# Altium schematic symbol library Proteus.SchLib: 169 symbols (part 1 of 2)
Pins are listed as number, name and electrical type; pins without a type are passive.

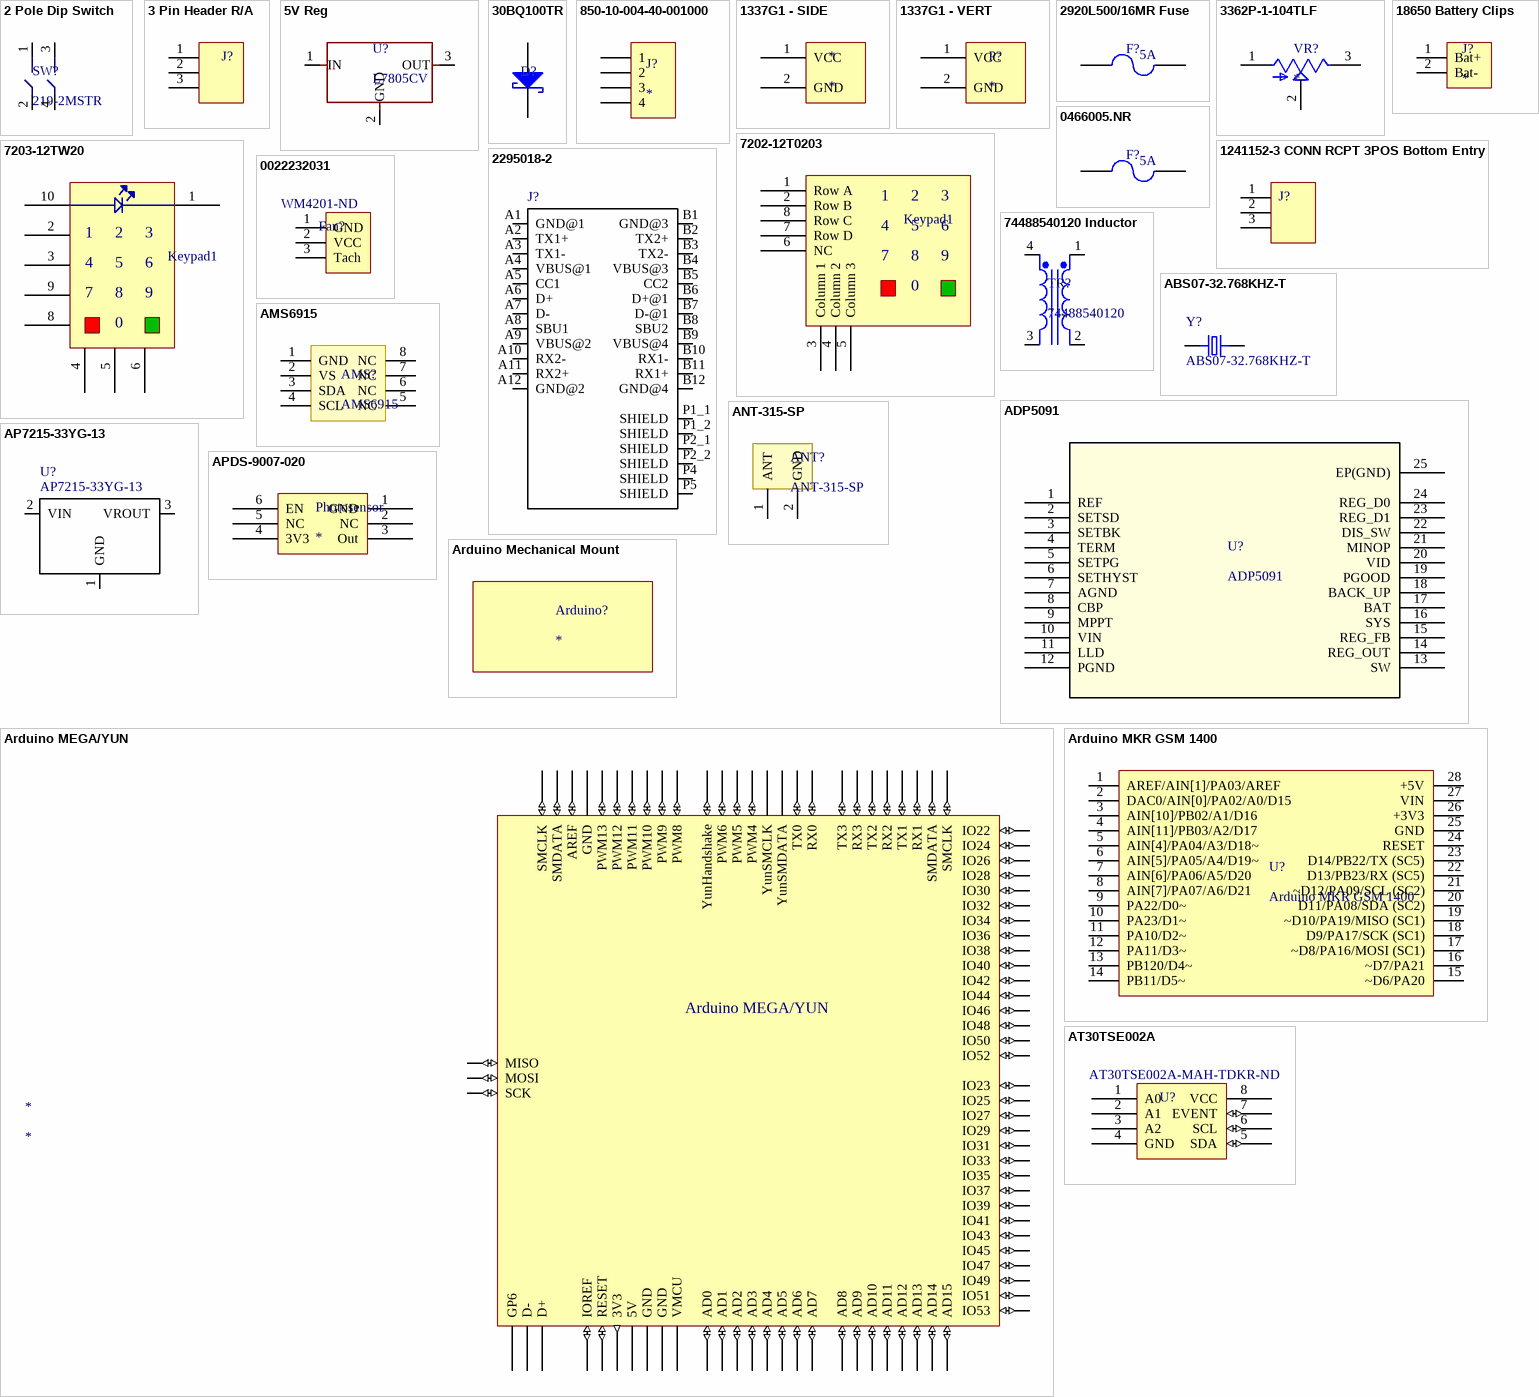
[diagram p0: symbols 2 Pole Dip Switch to AT30TSE002A]

## 2 Pole Dip Switch
designator SW?, comment 219-2MSTR
footprint 2 Pole DIP Switch (219-2MSTR)
pins: 1, 2, 3, 4

## 3 Pin Header R/A
designator J?
3 Pin Header R/A 2.54mm; MFG PN: SWR25X-NRTC-S03-RB-BA
footprint SWR25X-NRTC-S03-RB-BA (3 Pin Header R/A 2.54mm)
pins: 1, 2, 3

## 5V Reg
designator U?, comment L7805CV
MPN: L7805CV
footprint TO-252
pins: 1 IN, 2 GND, 3 OUT

## 30BQ100TR
designator D?  (value not drawn)
Manufacturer: SMC Diode Solutions; Manufacturer PN: 30BQ100TR; Supplier 1: Digikey; Supplier 1 PN: 1655-1389-1-ND
footprint 30BQ100TR (Diode Schottky 100V Surface Mount SMC)
pins: 1, 2

## 850-10-004-40-001000
designator J?
CONN HEADER SMD R/A 4POS 1.27MM
footprint 850-10-004-40-001000 (CONN HEADER SMD R/A 4POS 1.27MM)
pins: 1, 2, 3, 4

## 1337G1 - SIDE
designator *
footprint 1337G1 - SIDE
pins: 1 VCC (power), 2 GND (power)

## 1337G1 - VERT
designator P?
Heavy Duty Power Connectors R/A PCB CONT 25A LOW DETENT 0.70"; Manufacturer PN: 1377G1
footprint 1337G1 - Vert (Heavy Duty Power Connectors R/A PCB CONT 25A LOW DETENT 0.70")
pins: 1 VCC (power), 2 GND (power)

## 2920L500/16MR Fuse
designator F?  Current - Hold: 5A  (hidden comment: *)
PTC Resettable Fuse 16V 5A Ih Surface Mount 2920 (7351 Metric), Concave; Manufacturer: Littlefuse; Manufacturer PN: 2920L500/16MR; Current - Max: 40A; Current - Trip: 10A; Supplier 1: Digikey; Supplier 1 PN: F6136CT-ND; Voltage - Max: 16V
footprint 2920 (7351 Metric)
pins: 1, 2

## 3362P-1-104TLF
designator VR?
100 kOhms 0.5W, 1/2W PC Pins Through Hole Trimmer Potentiometer Cermet 1 Turn Top Finger Adjustment; MP: 3362P-1-104TLF; MF: Bourns; Purchase-URL: https://pricing.snapeda.com/search/part/3362P-1-104TLF/?ref=eda; Package: 3362P-1-T Bourns Inc.; SnapEDA_Link: https://www.snapeda.com/parts/3362P-1-104TLF/Bourns/view-part/1448275/?ref=snap; Availability: Warning; Price: None; Value: *; Check_prices: https://www.snapeda.com/parts/3362P-1-104TLF/Bourns/view-part/1448275/?ref=eda
footprint TRIM_3362P-1-104TLF
pins: 1 CCW, 2 WIPER, 3 CW

## 7202-12T0203
designator Keypad1, comment Keypad 7202-12T0203  (value not drawn)
Keypad Switch 12 Polymer Keys Conductive Rubber Contacts Matrix Output Non-Illuminated 0.05A @ 24VDC; Manufacturer: Storm Interface; Manufacturer PN: 7202-12T0203; Supplier 1: Digikey; Supplier 1 PN: MGR1653-ND
footprint Keypad 7202-12T0203 (Keypad Switch 12 Polymer Keys Conductive Rubber Contacts Matrix Output Non-Illuminated 0.05A @ 24VDC)
pins: 1 Row A, 2 Row B, 3 Column 1, 4 Column 2, 5 Column 3, 6 NC, 7 Row D, 8 Row C
text: 9; 0

## 7203-12TW20
designator Keypad1, comment Keypad 7203-12TW20  (value not drawn)
STORM 720 TFX-I ILLUMINATED 12 BUTTON; Manufacturer: Storm Interface; Manufacturer PN: 7203-12TW20; Supplier 1: Digikey; Supplier 1 PN: MGR1653-ND
footprint HDR1X10 (Connector; Header; 10 Position)
pins: 1, 2 Row A, 3 Row B, 4 Column 1, 5 Column 2, 6 Column 3, 8 Row D, 9 Row C, 10
text: 7; 0

## 18650 Battery Clips
designator J?
footprint 18650 Battery Clips SMD
footprint 18650 Battery Clips TH
pins: 1 Bat+, 2 Bat-

## 0466005.NR
designator F?  Current - Hold: 5A  (hidden comment: *)
PTC Resettable Fuse 16V 5A Ih Surface Mount 2920 (7351 Metric), Concave; Manufacturer: Littlefuse; Manufacturer PN: 2920L500/16MR; Current - Max: 40A; Current - Trip: 10A; Supplier 1: Digikey; Supplier 1 PN: F6136CT-ND; Voltage - Max: 16V
footprint 2920 (7351 Metric)
pins: 1, 2

## 1241152-3 CONN RCPT 3POS Bottom Entry
designator J?  (value not drawn)
3 Position Receptacle, Bottom or Top Entry Connector 0.100" (2.54mm) Surface Mount Gold
footprint 1241152-3 (CONN RCPT 3POS 0.1 GOLD SMD)
pins: 1, 2, 3

## 2295018-2
designator J?  (value not drawn)
Conn USB Type C RCP 12 POS Solder RA SMD 12 Terminal 1 Port T/R; Centerline_Pitch: .5 mm[.019 in]; Product_Type: Connector; Number_of_Positions: 24; MF: TE Connectivity; TE_purchase_URL: https://www.te.com/usa-en/product-2295018-2.html?te_bu=Cor&te_type=disp&te_campaign=seda_glo_cor-seda-global-disp-prtnr-fy19-seda-model-bom-cta_sma-317_1&elqCampaignId=32493; Availability: Unavailable; Package: None; MP: 2295018-2; Price: None; SnapEDA_Link: https://www.snapeda.com/parts/2295018-2/TE%20Connectivity%20AMP%20Connectors/view-part/899206/?ref=snap; EU_RoHS_Compliance: Compliant; Value: *
footprint USB C 2295018-2 (Footprint not found)
pins: A1 GND@1, A2 TX1+, A3 TX1-, A4 VBUS@1, A5 CC1, A6 D+, A7 D-, A8 SBU1, A9 VBUS@2, A10 RX2-, A11 RX2+, A12 GND@2, B1 GND@3, B2 TX2+, B3 TX2-, B4 VBUS@3, B5 CC2, B6 D+@1, B7 D-@1, B8 SBU2, B9 VBUS@4, B10 RX1-, B11 RX1+, B12 GND@4, P1_1 SHIELD, P1_2 SHIELD, P2_1 SHIELD, P2_2 SHIELD, P4 SHIELD, P5 SHIELD

## 0022232031
designator Fan?  Digikey PN: WM4201-ND  (hidden comment: *)
3 Positions Header, Unshrouded Connector 0.100" (2.54mm) Through Hole Tin; Manufacturer: Molex; Manufacturer PN: 0022232031
footprint OD9225-12HSS (FAN AXIAL 92.5X25MM 12VDC WIRE)
pins: 1 GND, 2 VCC, 3 Tach

## 74488540120 Inductor
designator TR?, comment 74488540120
INDUCT ARRAY 2 COIL 13UH SMD; Mfpn: 74488540120
footprint 74488540120 (INDUCT ARRAY 2 COIL 13UH SMD)
pins: 1 Sec+, 2 Sec-, 3 Pri-, 4 Pri+

## ABS07-32.768KHZ-T
designator Y?
32.768kHz Â±20ppm Crystal 12.5pF 70 kOhms 2-SMD, No Lead; MF: Abracon LLC; MP: ABS07-32.768KHZ; SnapEDA_Link: https://www.snapeda.com/parts/ABS07-32.768KHZ/Abracon%20LLC/view-part/448682/?ref=snap; Price: None; Availability: Unavailable; Package: SMD-2 Abracon; Value: *
footprint XTAL_ABS07-32.768KHZ-T (Footprint not found)
pins: 1, 2

## ADP5091
designator U?
Power Management; Manufacturer PN: ADP5091
footprint CP_24_10
pins: 1 REF, 2 SETSD, 3 SETBK, 4 TERM, 5 SETPG, 6 SETHYST, 7 AGND, 8 CBP, 9 MPPT, 10 VIN, 11 LLD, 12 PGND, 13 SW, 14 REG_OUT, 15 REG_FB, 16 SYS, 17 BAT, 18 BACK_UP, 19 PGOOD, 20 VID, 21 MINOP, 22 DIS_SW, 23 REG_D1, 24 REG_D0, 25 EP(GND)

## AMS6915
designator AMS?
OEM Pressure Sensor with I2C Interface
footprint AMS 6915-xxxx-G-V-x-DIL (Single Vertical Pressure Port Configuration)
footprint AMS 6915-xxxx-A-H-x-DIL & AMS 6915-1200-B-H-x-DIL (Single Horizontal Pressure Port Configuration)
footprint AMS 6915-xxxx-D-H-x-DIL & AMS 6915-xxxx-D-B-H-x-DIL (Dual Horizontal Pressure Port Configuration)
pins: 1 GND, 2 VS, 3 SDA, 4 SCL, 5 NC, 6 NC, 7 NC, 8 NC

## ANT-315-SP
designator ANT?
footprint ANT-315-SP
pins: 1 ANT, 2 GND

## AP7215-33YG-13
designator U?
Linear Voltage Regulator IC Positive Fixed 1 Output 600mA SOT-89-3; MF: Diodes Inc.; Package: SOT-89-3 Diodes Inc.; MP: AP7215-33YG-13; Price: None; Availability: Unavailable; SnapEDA_Link: https://www.snapeda.com/parts/AP7215-33YG-13/Diodes%20Inc./view-part/269921/?ref=snap; Value: *
footprint SOT150P400X160-3N
pins: 1 GND (power), 2 VIN (power), 3 VROUT (power)

## APDS-9007-020
designator Photosensor
AMBIENT LIGHT SENSOR 6CHIPLED; Manufacturer: Broadcom Limited; Manufacturer PN: APDS-9007-020; Supplier 1: Digikey; Supplier 1 PN: 516-1719-1-ND
footprint Photosensor APDS-9007-020 (AMBIENT LIGHT SENSOR 6CHIPLED)
pins: 1 GND, 2 NC, 3 Out, 4 3V3, 5 NC, 6 EN

## Arduino Mechanical Mount
designator Arduino?
footprint Arduino Mechanical Mount

## Arduino MEGA/YUN
designator *
footprint Arduino MEGA/YUN
pins: 3V3 (out), 5V (power), AD0 (io), AD1 (io), AD2 (io), AD3 (io), AD4 (io), AD5 (io), AD6 (io), AD7 (io), AD8 (io), AD9 (io), AD10 (io), AD11 (io), AD12 (io), AD13 (io), AD14 (io), AD15 (io), AREF (io), D+, D-, GND (power), GND (power), GND (power), GP6, IO22 (io), IO23 (io), IO24 (io), IO25 (io), IO26 (io), IO27 (io), IO28 (io), IO29 (io), IO30 (io), IO31 (io), IO32 (io), IO33 (io), IO34 (io), IO35 (io), IO36 (io), IO37 (io), IO38 (io), IO39 (io), IO40 (io), IO41 (io), IO42 (io), IO43 (io), IO44 (io), IO45 (io), IO46 (io), IO47 (io), IO48 (io), IO49 (io), IO50 (io), IO51 (io), IO52 (io), IO53 (io), IOREF (io), MISO (io), MOSI (io), PWM4 (io), PWM5 (io), PWM6 (io), PWM8 (io), PWM9 (io), PWM10 (io), PWM11 (io), PWM12 (io), PWM13 (io), RESET (io), RX0 (io), RX1 (io), RX2 (io), RX3 (io), SCK (io), SMCLK (io), SMCLK (io), SMDATA (io), SMDATA (io), TX0 (io), TX1 (io), TX2 (io), TX3 (io), VMCU (power), YunHandshake (io), YunSMCLK (power), YunSMDATA (power)

## Arduino MKR GSM 1400
designator U?
footprint Arduino MKR GSM 1400
pins: 1 AREF/AIN[1]/PA03/AREF, 2 DAC0/AIN[0]/PA02/A0/D15, 3 AIN[10]/PB02/A1/D16, 4 AIN[11]/PB03/A2/D17, 5 AIN[4]/PA04/A3/D18~, 6 AIN[5]/PA05/A4/D19~, 7 AIN[6]/PA06/A5/D20, 8 AIN[7]/PA07/A6/D21, 9 PA22/D0~, 10 PA23/D1~, 11 PA10/D2~, 12 PA11/D3~, 13 PB120/D4~, 14 PB11/D5~, 15 ~D6/PA20, 16 ~D7/PA21, 17 ~D8/PA16/MOSI (SC1), 18 D9/PA17/SCK (SC1), 19 ~D10/PA19/MISO (SC1), 20 D11/PA08/SDA (SC2), 21 ~D12/PA09/SCL (SC2), 22 D13/PB23/RX (SC5), 23 D14/PB22/TX (SC5), 24 RESET, 25 GND, 26 +3V3, 27 VIN, 28 +5V

## AT30TSE002A
designator U?  Supplier Part Number 1: AT30TSE002A-MAH-TDKR-ND  (hidden comment: AT30TSE002A)
SENSOR TEMP I2C/SMBUS 8WDFN; Supply Voltage: 2.7 V ~ 3.6 V; Sensing Temperature Local: -20°C ~ 125°C; Package: 8-WDFN; Supplier 1: Digi-Key
footprint AT30TSE002A (8WDFN 2x3mm)
pins: 1 A0 (power), 2 A1 (power), 3 A2 (power), 4 GND (power), 5 SDA (io), 6 SCL (io), 7 EVENT (io), 8 VCC (power)

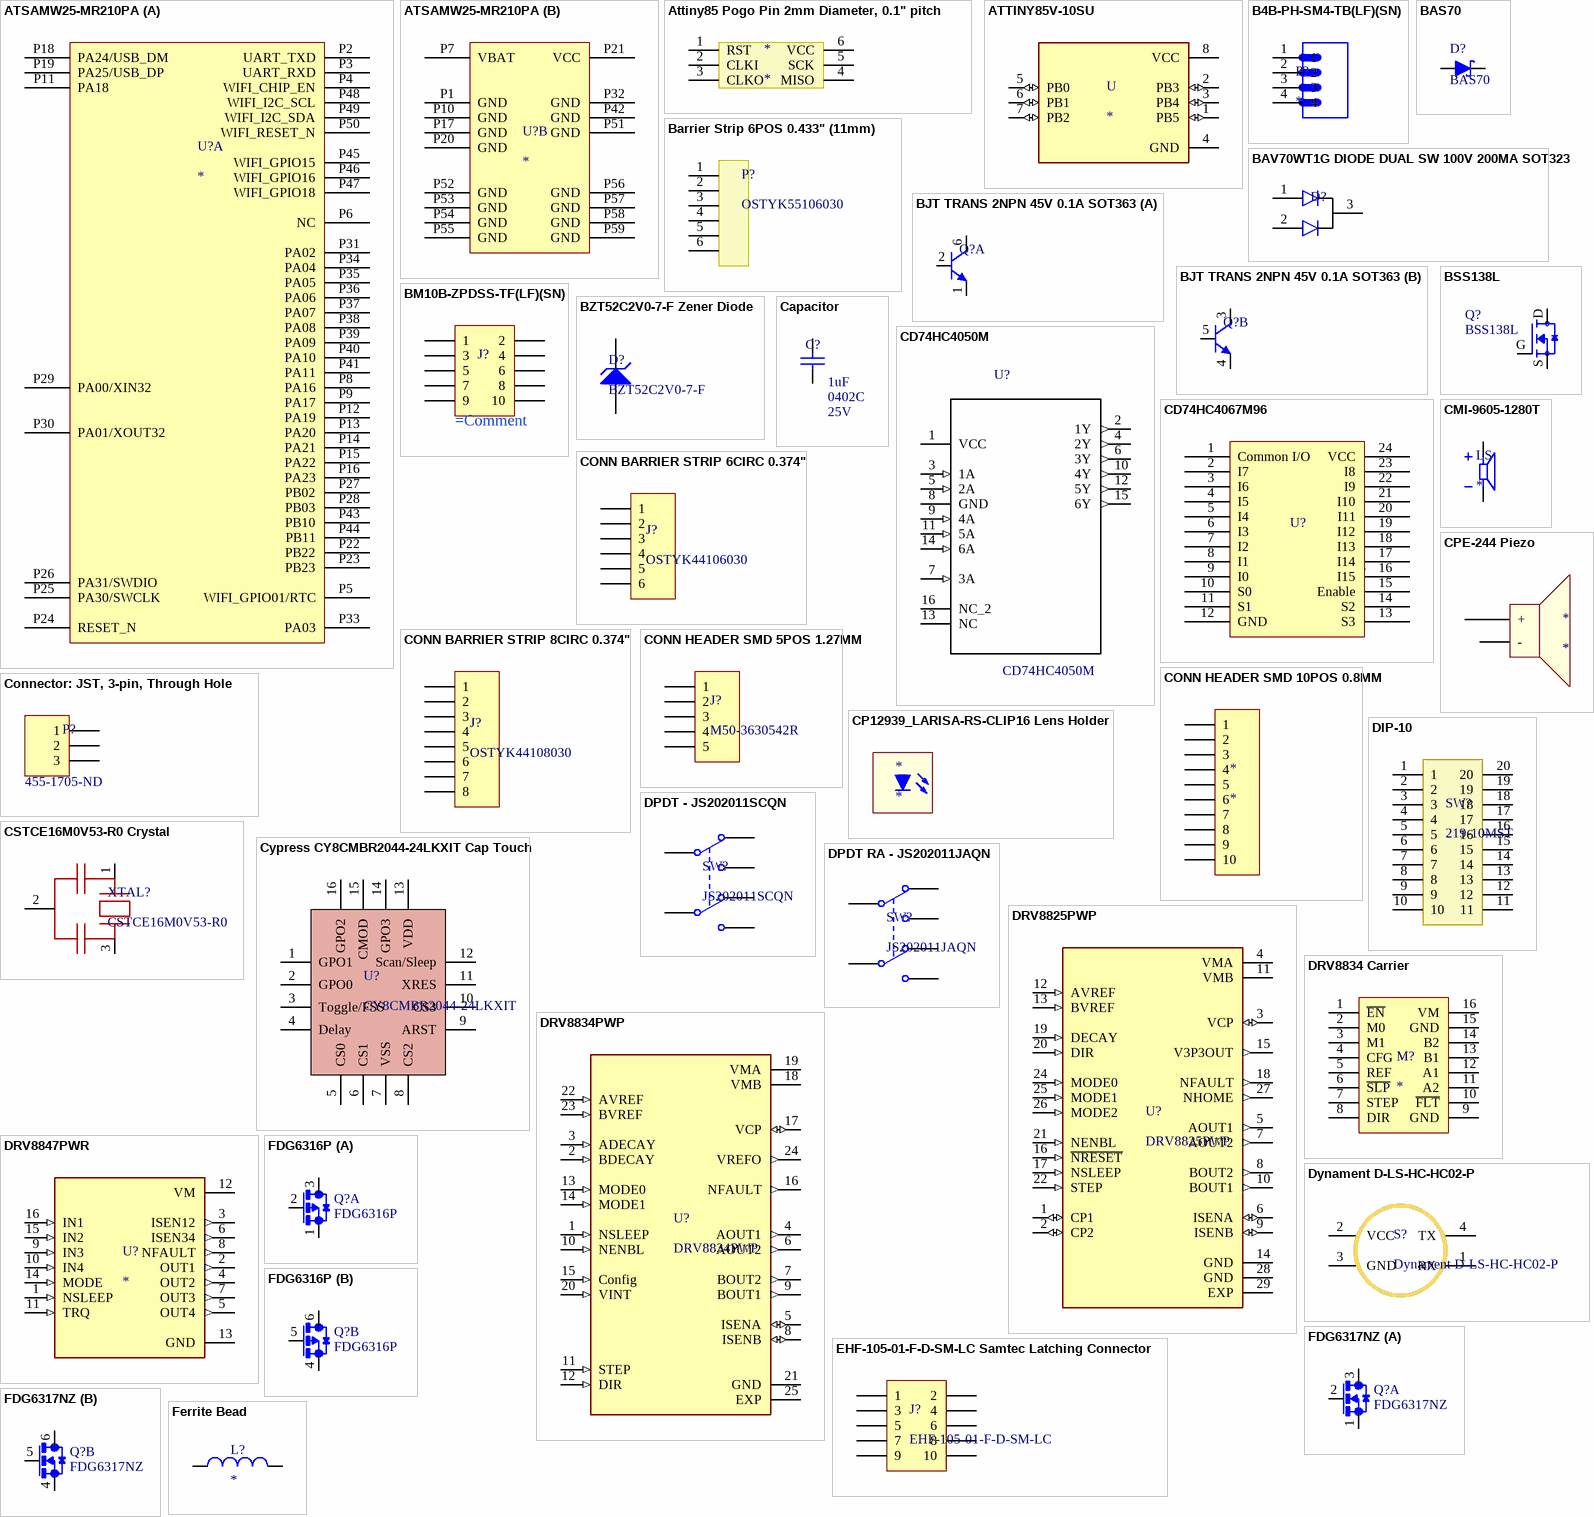
[diagram p1: symbols ATSAMW25-MR210PA to Ferrite Bead]

## ATSAMW25-MR210PA
designator U?
IEEE 802.11 b/g/n SmartConnect Wi-Fi Module
footprint ATSAMW25-MR210PA
part A pins: P2 UART_TXD, P3 UART_RXD, P4 WIFI_CHIP_EN, P5 WIFI_GPIO01/RTC, P6 NC, P8 PA16, P9 PA17, P11 PA18, P12 PA19, P13 PA20, P14 PA21, P15 PA22, P16 PA23, P18 PA24/USB_DM, P19 PA25/USB_DP, P22 PB22, P23 PB23, P24 RESET_N, P25 PA30/SWCLK, P26 PA31/SWDIO, P27 PB02, P28 PB03, P29 PA00/XIN32, P30 PA01/XOUT32, P31 PA02, P33 PA03, P34 PA04, P35 PA05, P36 PA06, P37 PA07, P38 PA08, P39 PA09, P40 PA10, P41 PA11, P43 PB10, P44 PB11, P45 WIFI_GPIO15, P46 WIFI_GPIO16, P47 WIFI_GPIO18, P48 WIFI_I2C_SCL, P49 WIFI_I2C_SDA, P50 WIFI_RESET_N
part B pins: P1 GND, P7 VBAT, P10 GND, P17 GND, P20 GND, P21 VCC, P32 GND, P42 GND, P51 GND, P52 GND, P53 GND, P54 GND, P55 GND, P56 GND, P57 GND, P58 GND, P59 GND

## Attiny85 Pogo Pin 2mm Diameter, 0.1" pitch
designator *
footprint Attiny85 Pogo Pin 2mm Diameter 0.1" Pitch
pins: 1 RST, 2 CLKI, 3 CLKO, 4 MISO, 5 SCK, 6 VCC

## ATTINY85V-10SU
designator U
AVR AVRÂ® ATtiny Microcontroller IC 8-Bit 10MHz 8KB (4K x 16) FLASH 8-SOIC; MF: Microchip Technology; MP: ATTINY85V-10SU; Arrow_Electronics-Purchase-URL: https://snapeda.com/shop?store=Arrow+Electronics&id=4710232; Value: *; SnapEDA_Link: https://www.snapeda.com/parts/ATTINY85V-10SU/Microchip/view-part/4710232/?ref=snap; DigiKey-Purchase-URL: https://snapeda.com/shop?store=DigiKey&id=4710232; Mouser-Purchase-URL: https://snapeda.com/shop?store=Mouser&id=4710232; Package: SOIC-8 Microchip Technology
footprint SOIC127P798X216-8N
pins: 1 PB5 (io), 2 PB3 (io), 3 PB4 (io), 4 GND (power), 5 PB0 (io), 6 PB1 (io), 7 PB2 (io), 8 VCC (power)

## B4B-PH-SM4-TB(LF)(SN)
designator P?
Connector Header Surface Mount 4 position 0.079 _2.00mm_; MF: JST Sales; MP: B4B-PH-SM4-TB_LF__SN_; Value: *; Price: None; Package: None; SnapEDA_Link: https://www.snapeda.com/parts/B6B-PH-SM4-TB%28LF%29%28SN%29/JST%20Sales%20America%20Inc./view-part/52131/?ref=snap; Availability: Unavailable
footprint JST_B4B-PH-SM4-TB(LF)(SN) (Footprint not found)
pins: 1, 2, 3, 4

## Barrier Strip 6POS 0.433" (11mm)
designator P?, comment OSTYK55106030
Manufacturer: On Shore Technology; Manufacturer PN: OSTYK55106030; Digikey PN: ED2930-ND
footprint Barrier Strip 6POS 0.433" (11mm) (CONN BARRIER STRIP 6CIRC 0.433")
pins: 1, 2, 3, 4, 5, 6

## BAS70
designator D?
Diode Array 1 Pair Series Connection Schottky 70V 100mA _DC_ Surface Mount TO-236-3, SC-59, SOT-23-3; MF: NXP Semiconductors; Package: SOT-23 NXP Semiconductors; Price: None; Availability: Unavailable; MP: BAS70; SnapEDA_Link: https://www.snapeda.com/parts/BAS70/NXP%20Semiconductors/view-part/388227/?ref=snap; Value: *
footprint SOT23 (Footprint not found)
pins: 1 A, 3 K

## BAV70WT1G DIODE DUAL SW 100V 200MA SOT323
designator D?  (value not drawn)
Diode Array 1 Pair Common Cathode Standard 100V 200mA (DC) Surface Mount SC-70, SOT-323; MFG PN: BAV70WT1G; MFG: ON Semiconductor
footprint SOT323 SC-70
pins: 1, 2, 3

## BJT TRANS 2NPN 45V 0.1A SOT363
designator Q?, comment BC847BDW1T3G  (value not drawn)
Bipolar (BJT) Transistor Array 2 NPN (Dual) 45V 100mA 100MHz 380mW Surface Mount SC-88/SC70-6/SOT-363; MFG PN: BC847BDW1T3G
footprint SC70-6L
part A pins: 1 E, 2 B, 6 C
part B pins: 3 C, 4 E, 5 B

## BM10B-ZPDSS-TF(LF)(SN)
designator J?  (value not drawn)
Mfg PN: BM10B-ZPDSS-TF(LF)(SN)
pins: 1, 2, 3, 4, 5, 6, 7, 8, 9, 10

## BSS138L
designator Q?
N-Channel 50V 200mA _Ta_ 350mW _Ta_ Surface Mount SOT-23-3; MF: ON Semiconductor; Package: SOT-23 ON Semiconductor; MP: BSS138L; SnapEDA_Link: https://www.snapeda.com/parts/BSS138L/ON%20Semiconductor/view-part/1717338/?ref=snap; Availability: Unavailable; Price: None; Value: *
footprint BSS138L_BSS138L(Primary)
pins: D, G, S

## BZT52C2V0-7-F Zener Diode
designator D?, comment BZT52C2V0-7-F
Zener Diode 2V 500mW ±5% Surface Mount SOD-123; MFG PN: BZT52C2V0-7-F
footprint SOD-123
pins: 1 C, 2 A

## Capacitor
designator C?  value 1uF  Voltage: 25V
footprint 0402C (Capacitor)
footprint 0603C (Capacitor)
footprint 0805C (Capacitor)
pins: 1, 2

## CD74HC4050M
designator U?
Buffer, Non-Inverting 6 Element 1 Bit per Element Push-Pull Output 16-SOIC; MF: Texas; Package: SOIC-16 Harris; MP: CD74HC4050M; SnapEDA_Link: https://www.snapeda.com/parts/CD74HC4050M/Texas%20Instruments/view-part/1199551/?ref=snap; Price: None; Availability: Unavailable; Value: *
footprint SOIC127P600X175-16N (Footprint not found)
footprint SOP65P640X120-16N
pins: 1 VCC (power), 2 1Y (out), 3 1A (in), 4 2Y (out), 5 2A (in), 6 3Y (out), 7 3A (in), 8 GND, 9 4A (in), 10 4Y (out), 11 5A (in), 12 5Y (out), 13 NC, 14 6A (in), 15 6Y (out), 16 NC_2

## CD74HC4067M96
designator U?  Manufacturer PN: CD74HC4067M96  (hidden comment: *)
IC MUX/DEMUX 1X16 24SOIC; Manufacturer: Texas Instruments; Supplier 1 PN: 296-29408-1-ND; Supplier 1: Digikey
footprint DW24_L (SOIC, 24-Leads, Body 15.4x7.5mm, Pitch 1.27mm, IPC High Density)
footprint DW24_M (SOIC, 24-Leads, Body 15.4x7.5mm, Pitch 1.27mm, IPC Low Density)
footprint DW24_N (SOIC, 24-Leads, Body 15.4x7.5mm, Pitch 1.27mm, IPC Medium Density)
pins: 1 Common I/O, 2 I7, 3 I6, 4 I5, 5 I4, 6 I3, 7 I2, 8 I1, 9 I0, 10 S0, 11 S1, 12 GND, 13 S3, 14 S2, 15 Enable, 16 I15, 17 I14, 18 I13, 19 I12, 20 I11, 21 I10, 22 I9, 23 I8, 24 VCC

## CMI-9605-1280T
designator LS
9.6 mm, 12 Vdc, 80 dB, Through Hole, Driving Circuit, Magnetic Audio Indicator Buzzer; MP: CMI-9605-1280T; MF: CUI Devices; Value: *; SnapEDA_Link: https://www.snapeda.com/parts/CMI-9605-1280T/CUI%20Devices/view-part/3662540/?ref=snap; Availability: Unavailable; Price: None
footprint CUI_CMI-9605-1280T
pins: N, P

## CONN BARRIER STRIP 6CIRC 0.374"
designator J?, comment OSTYK44106030
MFG PN: OSTYK44106030
footprint CONN BARRIER STRIP 6CIRC 0.374"
pins: 1, 2, 3, 4, 5, 6

## CONN BARRIER STRIP 8CIRC 0.374"
designator J?, comment OSTYK44108030
MFG PN: OSTYK44108030
footprint CONN BARRIER STRIP 8CIRC 0.374"
pins: 1, 2, 3, 4, 5, 6, 7, 8

## CONN HEADER SMD 5POS 1.27MM
designator J?, comment M50-3630542R
MFG PN: M50-3630542R
footprint CONN HEADER SMD 5POS 1.27MM (Connector Header Surface Mount 5 position 0.050" (1.27mm))
pins: 1, 2, 3, 4, 5

## CONN HEADER SMD 10POS 0.8MM
designator *
footprint CONN HEADER SMD 10POS 0.8MM
pins: 1, 2, 3, 4, 5, 6, 7, 8, 9, 10

## Connector: JST, 3-pin, Through Hole
designator P?  Supplier 1 PN: 455-1705-ND  (hidden comment: *)
3 Positions Header, Shrouded Connector 0.079" (2.00mm) Through Hole Tin; Manufacturer: JST; Manufacturer PN: B3B-PH-K-S(LF)(SN); Supplier 1: Digikey
footprint Connector: JST, 3-pin, Through Hole, Vertical, 2mm (3 Positions Header, Shrouded Connector 0.079" (2.00mm) Through Hole Tin)
footprint Connector: JST, 3-pin, Through Hole, Right-Angle, 2mm (3 Positions Header, Shrouded Connector 0.079" (2.00mm) Through Hole, Right Angle Tin)
pins: 1, 2, 3

## CP12939_LARISA-RS-CLIP16 Lens Holder
designator *

## CPE-244 Piezo
designator *
BUZZER PIEZO 12V 14MM RADIAL
footprint CPE-244 Piezo (DC Buzzer Single Tone 5kHz Piezo 9 ~ 16V 80dB @ 12V, 30cm)
pins: + (power), - (power)

## CSTCE16M0V53-R0 Crystal
designator XTAL?, comment CSTCE16M0V53-R0
footprint CSTCE16M0V53-R0
pins: 1, 2, 3

## Cypress CY8CMBR2044-24LKXIT Cap Touch
designator U?, comment CY8CMBR2044-24LKXIT
footprint QFN-MG16_L (QFN, 16-Leads, Body 3x3mm, Pitch 0.5mm, Thermal Pad 1.5x1.5mm, IPC High Density)
pins: 1 GPO1, 2 GPO0, 3 Toggle/FSS, 4 Delay, 5 CS0, 6 CS1, 7 VSS, 8 CS2, 9 ARST, 10 CS3, 11 XRES, 12 Scan/Sleep, 13 VDD, 14 GPO3, 15 CMOD, 16 GPO2

## DIP-10
designator SW?, comment 219-10MST
Manufacturer PN: 219-10MST
footprint DIP-10 (219-10MST)
pins: 1, 2, 3, 4, 5, 6, 7, 8, 9, 10, 11, 12, 13, 14, 15, 16, 17, 18, 19, 20

## DPDT - JS202011SCQN
designator SW?, comment JS202011SCQN
Manufacturer PN: JS202011SCQN
footprint DPDT Switch - JS202011SCQN
pins: 1 NC1, 2 COMMON1, 3 NO1, 4 NC2, 5 COMMON2, 6 NO2

## DPDT RA - JS202011JAQN
designator SW?, comment JS202011JAQN
Manufacturer PN: JS202011JAQN
footprint DPDT Switch RA - JS202011JAQN
pins: 1 NC1, 2 COMMON1, 3 NO1, 5 NC2, 6 COMMON2, 7 NO2

## DRV8825PWP
designator U?
Bipolar Motor Driver Power MOSFET Logic 28-HTSSOP; MF: Texas Instruments; Package: HTSSOP-28 Texas Instruments; Price: None; SnapEDA_Link: https://www.snapeda.com/parts/DRV8825PWP/Texas%20Instruments/view-part/52585/?ref=snap; Availability: Unavailable; Value: *; MP: DRV8825PWP
footprint SOP65P640X120-29N
pins: 1 CP1 (io), 2 CP2 (io), 3 VCP (io), 4 VMA (power), 5 AOUT1 (out), 6 ISENA (io), 7 AOUT2 (out), 8 BOUT2 (out), 9 ISENB (io), 10 BOUT1 (out), 11 VMB (power), 12 AVREF (in), 13 BVREF (in), 14 GND (power), 15 V3P3OUT (out), 16 ~{NRESET} (in), 17 NSLEEP (in), 18 NFAULT (out), 19 DECAY (in), 20 DIR (in), 21 NENBL (in), 22 STEP (in), 24 MODE0 (in), 25 MODE1 (in), 26 MODE2 (in), 27 NHOME (out), 28 GND (power), 29 EXP (power)

## DRV8834 Carrier
designator M?
footprint DRV8834 Carrier
pins: 1 ~{EN}, 2 M0, 3 M1, 4 CFG, 5 REF, 6 ~{SLP}, 7 STEP, 8 DIR, 9 GND, 10 ~{FLT}, 11 A2, 12 A1, 13 B1, 14 B2, 15 GND, 16 VM

## DRV8834PWP
designator U?
Bipolar Motor Driver Power MOSFET Logic 28-HTSSOP; MF: Texas Instruments; Package: HTSSOP-28 Texas Instruments; Price: None; SnapEDA_Link: https://www.snapeda.com/parts/DRV8825PWP/Texas%20Instruments/view-part/52585/?ref=snap; Availability: Unavailable; Value: *; MP: DRV8834PWP
footprint SOP65P640X120-25N
pins: 1 NSLEEP (in), 2 BDECAY (in), 3 ADECAY (in), 4 AOUT1 (out), 5 ISENA (io), 6 AOUT2 (out), 7 BOUT2 (out), 8 ISENB (io), 9 BOUT1 (out), 10 NENBL (in), 11 STEP (in), 12 DIR (in), 13 MODE0 (in), 14 MODE1 (in), 15 Config (in), 16 NFAULT (out), 17 VCP (io), 18 VMB (power), 19 VMA (power), 20 VINT (in), 21 GND (power), 22 AVREF (in), 23 BVREF (in), 24 VREFO (out), 25 EXP (power)

## DRV8847PWR
designator U?
18-V, 2-A dual H-bridge motor driver with current regulation & independent half-bridge control 16-TSSOP -40 to 125; MP: DRV8847PWR; MF: Texas Instruments; Texas_Instruments-Purchase-URL: https://snapeda.com/shop?store=Texas+Instruments&id=3603903; Availability: Unavailable; Package: TSSOP-16 Texas Instruments; Mouser-Purchase-URL: https://snapeda.com/shop?store=Mouser&id=3603903; Price: None; SnapEDA_Link: https://www.snapeda.com/parts/DRV8847PWR/Texas%20Instruments/view-part/3603903/?ref=snap; Value: *
footprint TSSOP16
pins: 1 NSLEEP (in), 2 OUT1 (out), 3 ISEN12 (out), 4 OUT2 (out), 5 OUT4 (out), 6 ISEN34 (out), 7 OUT3 (out), 8 NFAULT (out), 9 IN3 (in), 10 IN4 (in), 11 TRQ (in), 12 VM (power), 13 GND (power), 14 MODE (in), 15 IN2 (in), 16 IN1 (in)

## Dynament D-LS-HC-HC02-P
designator S?
SGX  INIR-ME-100% Sensor - CH4 Methane; MFG PN: D-LS-HC-HC02-P
footprint Dynament D-LS-HC-HC02-P
pins: 1 RX, 2 VCC, 3 GND, 4 TX

## EHF-105-01-F-D-SM-LC Samtec Latching Connector
designator J?, comment EHF-105-01-F-D-SM-LC
MFG PN: EHF-105-01-F-D-SM-LC
footprint EHF-105-01-F-D-SM-LC Samtec Latching Connector
pins: 1, 2, 3, 4, 5, 6, 7, 8, 9, 10

## FDG6316P
designator Q?
Mosfet Array 2 P-Channel _Dual_ 12V 700mA 300mW Surface Mount SC-88 _SC-70-6_; MF: ON; MP: FDG6316P; SnapEDA_Link: https://www.snapeda.com/parts/FDG6316P/ON%20Semiconductor/view-part/262683/?ref=snap; Price: None; Availability: Unavailable; Package: SC-70-6 Fairchild Semiconductor; Value: *
footprint SC70-6L
part A pins: 1 S, 2 G, 3 D
part B pins: 4 S, 5 G, 6 D

## FDG6317NZ
designator Q?
Mosfet Array 2 N-Channel (Dual) 20V 700mA 300mW Surface Mount SC-88 (SC-70-6); MP: FDG6316P; MF: ON; SnapEDA_Link: https://www.snapeda.com/parts/FDG6316P/ON%20Semiconductor/view-part/262683/?ref=snap; Price: None; Availability: Unavailable; Package: SC-70-6 Fairchild Semiconductor; Value: *
footprint SC70-6L
part A pins: 1 S, 2 G, 3 D
part B pins: 4 S, 5 G, 6 D

## Ferrite Bead
designator L?
footprint 0603F (Capacitor)
pins: 1, 2

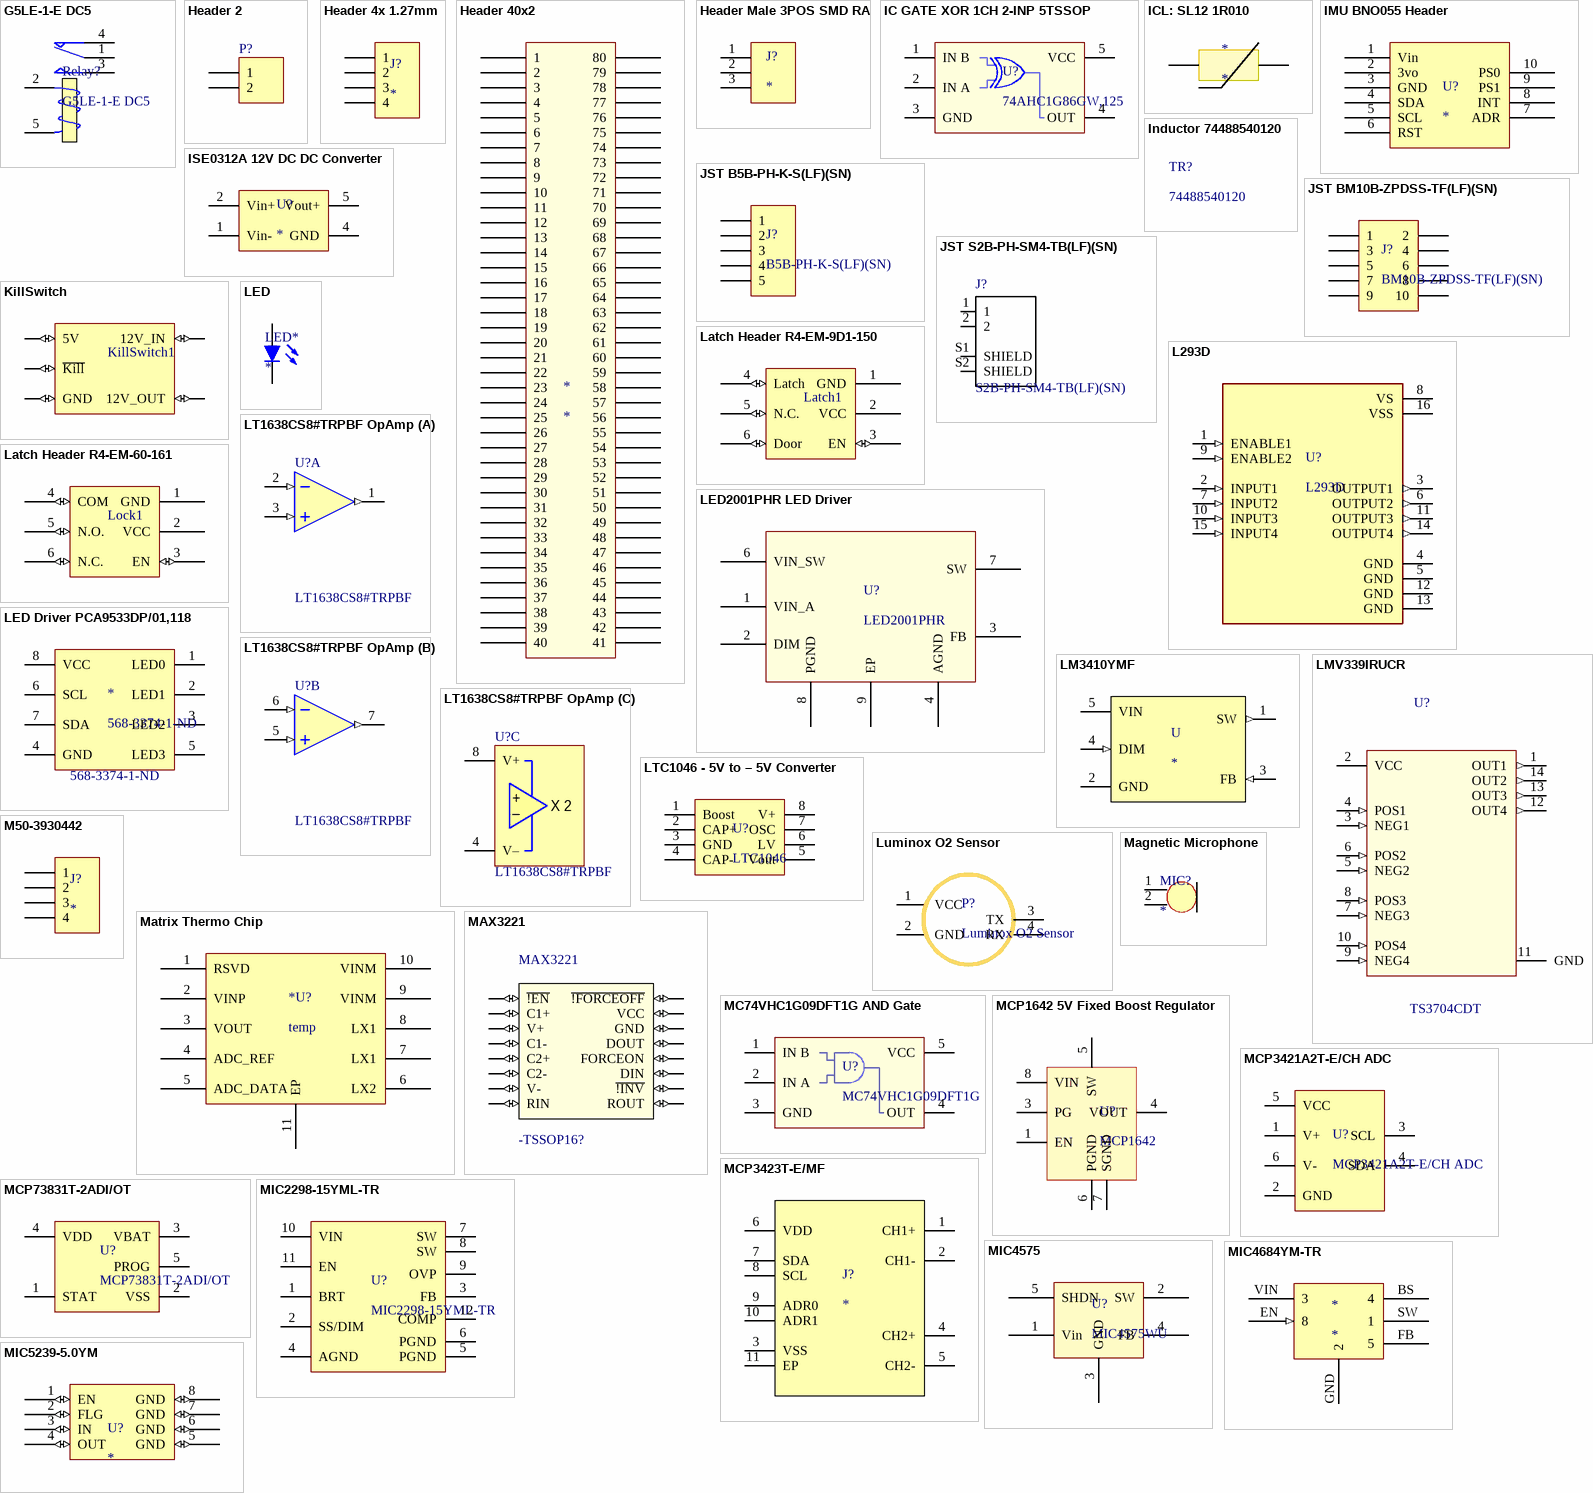
[diagram p2: symbols G5LE-1-E DC5 to MIC5239-5.0YM]

## G5LE-1-E DC5
designator Relay?
General Purpose Relay SPDT (1 Form C) 5VDC Coil Through Hole; Manufacturer: Omron; Supplier 1: Digikey; Supplier 1 PN: Z2616-ND; Manufacturer PN: G5LE-1-E DC5
footprint G5LE-1-E DC5 SPDT Relay (RELAY GEN PURPOSE SPDT 16A 5V)
pins: 1 COM, 2 NC, 3 NO, 4 T1, 5 T2

## Header 2
designator P?
Header, 2-Pin; LatestRevisionDate: 17-Jul-2002; LatestRevisionNote: Re-released for DXP Platform.; Publisher: Altium Limited
footprint HDR1X2 (Connector; Header; 2 Position)
signal-integrity model Connector
footprint HDR1X2 - Large (Connector; Header; 2 Position)
pins: 1, 2

## Header 4x 1.27mm
designator J?
CONN HEADER SMD R/A 4POS 1.27MM
footprint Header 4x 1.27mm (CONN HEADER SMD R/A 4POS 1.27MM)
pins: 1, 2, 3, 4

## Header 40x2
designator *
footprint Header 40x2
pins: 1, 2, 3, 4, 5, 6, 7, 8, 9, 10, 11, 12, 13, 14, 15, 16, 17, 18, 19, 20, 21, 22, 23, 24, 25, 26, 27, 28, 29, 30, 31, 32, 33, 34, 35, 36, 37, 38, 39, 40, 41, 42, 43, 44, 45, 46, 47, 48, 49, 50, 51, 52, 53, 54, 55, 56, 57, 58, 59, 60, 61, 62, 63, 64, 65, 66, 67, 68, 69, 70, 71, 72, 73, 74, 75, 76, 77, 78, 79, 80

## Header Male 3POS SMD RA
designator J?
footprint Header Male 3POS SMT RA
footprint Header Male 3POS SMT VERT
pins: 1, 2, 3

## IC GATE XOR 1CH 2-INP 5TSSOP
designator U?, comment 74AHC1G86GW,125
MFG PN: 74AHC1G86GW,125
footprint SOT353-5
pins: 1 IN B, 2 IN A, 3 GND, 4 OUT, 5 VCC

## ICL: SL12 1R010
designator *
footprint ICL (ICL 1 OHM 20% 10A 12MM)
pins: 1, 2

## IMU BNO055 Header
designator U?
footprint IMU BNO055 Header
pins: 1 Vin, 2 3vo, 3 GND, 4 SDA, 5 SCL, 6 RST, 7 ADR, 8 INT, 9 PS1, 10 PS0

## Inductor 74488540120
designator TR?, comment 74488540120
INDUCT ARRAY 2 COIL 13UH SMD; MFGR PN: 74488540120

## ISE0312A 12V DC DC Converter
designator U?
Isolated Module DC DC Converter 1 Output 12V    84mA 2.97V - 3.63V Input; MFG PN: ISE0312A; MFG: XP Power
footprint ISE0312A (12V DC DC Converter)
pins: 1 Vin-, 2 Vin+, 4 GND, 5 Vout+

## JST B5B-PH-K-S(LF)(SN)
designator J?, comment B5B-PH-K-S(LF)(SN)
Connector Header Through Hole 5 position 0.079" (2.00mm); Mfg PN: B5B-PH-K-S(LF)(SN)
footprint B5B-PH-K-S(LF)(SN) (Connector Header Through Hole 5 position 0.079" (2.00mm))
pins: 1, 2, 3, 4, 5

## JST BM10B-ZPDSS-TF(LF)(SN)
designator J?, comment BM10B-ZPDSS-TF(LF)(SN)
Connector Header Surface Mount 10 position 0.059" (1.50mm); MFG PN: BM10B-ZPDSS-TF(LF)(SN)
footprint JST BM10B-ZPDSS-TF(LF)(SN) (Connector Header Surface Mount 10 position 0.059" (1.50mm))
pins: 1, 2, 3, 4, 5, 6, 7, 8, 9, 10

## JST S2B-PH-SM4-TB(LF)(SN)
designator J?, comment S2B-PH-SM4-TB(LF)(SN)
Connector Header Surface Mount, Right Angle 2 position 0.079 _2.00mm_; MF: JST Sales; MP: S2B-PH-SM4-TB_LF__SN_; Price: None; SnapEDA_Link: https://www.snapeda.com/parts/S2B-PH-SM4-TB%28LF%29%28SN%29/JST%20Sales%20America%20Inc./view-part/46879/?ref=snap; Package: None; Availability: Unavailable; Value: *
footprint S2B-PH-SM4-TB(LF)(SN)_()
pins: 1, 2, S1 SHIELD, S2 SHIELD

## KillSwitch
designator KillSwitch1  (value not drawn)
pins: 5V (io), 12V_IN (io), 12V_OUT (io), \K\i\l\l\ (io), GND (io)

## L293D
designator U?
Bipolar Motor Driver Parallel 16-PowerDIP; MF: STMicroelectronics; Availability: Unavailable; SnapEDA_Link: https://www.snapeda.com/parts/L293D/STMicroelectronics/view-part/83726/?ref=snap; Mfg PN: L293D; Price: None; Package: SOIC-20 STMicroelectronics; Value: *
footprint DIP880W50P254L2000H510Q16
pins: 1 ENABLE1 (in), 2 INPUT1 (in), 3 OUTPUT1 (out), 4 GND (power), 5 GND (power), 6 OUTPUT2 (out), 7 INPUT2 (in), 8 VS (power), 9 ENABLE2 (in), 10 INPUT3 (in), 11 OUTPUT3 (out), 12 GND (power), 13 GND (power), 14 OUTPUT4 (out), 15 INPUT4 (in), 16 VSS (power)

## Latch Header R4-EM-9D1-150
designator Latch1  (value not drawn)
6 Positions Header, Shrouded Connector 0.118" (3.00mm) Through Hole Gold; Manufacturer: Molex. LLC; Supplier 1: Digikey; Supplier 1 PN: WM10679-ND
footprint Latch Header (6 Positions Header, Shrouded Connector 0.118" (3.00mm) Through Hole Gold)
pins: 1 GND (power), 2 VCC (power), 3 EN (io), 4 Latch (io), 5 N.C. (io), 6 Door (io)

## Latch Header R4-EM-60-161
designator Lock1  (value not drawn)
6 Positions Header, Shrouded Connector 0.118" (3.00mm) Through Hole Gold; Manufacturer: Molex. LLC; Supplier 1: Digikey; Supplier 1 PN: WM10679-ND
footprint Latch Header (6 Positions Header, Shrouded Connector 0.118" (3.00mm) Through Hole Gold)
pins: 1 GND (power), 2 VCC (power), 3 EN (io), 4 COM (io), 5 N.O. (io), 6 N.C. (io)

## LED
designator LED*
footprint 0402LED (Resistor)
footprint 0603LED
footprint LED T/H
pins: 1, 2

## LED2001PHR LED Driver
designator U?, comment LED2001PHR
LED Driver IC 1 Output DC DC Regulator Step-Down (Buck) PWM Dimming 4A 8-HSOP; MFG PN: LED2001PHR
footprint SOIC-8 SOIC127P600X170-9N
pins: 1 VIN_A, 2 DIM, 3 FB, 4 AGND, 6 VIN_SW, 7 SW, 8 PGND, 9 EP

## LED Driver PCA9533DP/01,118
designator *, comment 568-3374-1-ND
LED Driver IC 4 Output Linear I²C, SMBus Dimming 25mA 8-TSSOP; Manufacturer: NXP USA; Manufacturer PN: PCA9533DP/01,118; Digikey PN: 568-3374-1-ND
footprint TSSOP-08 (TSOP, 8-Leads, Body 3x3mm, Pitch 0.65mm, IPC Low Density)
pins: 1 LED0, 2 LED1, 3 LED2, 4 GND, 5 LED3, 6 SCL, 7 SDA, 8 VCC

## LM3410YMF
designator U
525kHz/1.6MHz, Constant Current Boost and SEPIC LED Driver with Internal Compensation 5-SOT-23 -40 to 125; MP: LM3410YMF/NOPB; MF: Texas Instruments; Price: None; Value: *; Package: SOT-23 Texas Instruments; SnapEDA_Link: https://www.snapeda.com/parts/LM3410YMF/NOPB/Texas%20Instruments/view-part/26366/?ref=snap; Availability: Unavailable
footprint SOT-23-5
pins: 1 SW (out), 2 GND, 3 FB (in), 4 DIM (in), 5 VIN (power)

## LMV339IRUCR
designator U?, comment TS3704CDT
Comparator General Purpose CMOS, Push-Pull 14-SO; MF: Texas Instruments; MP: LMV339IRUCR; Package: 14-XFQFN; Digi-Key_Part_Number: 296-28637-1-ND
footprint QFN40P200X200X40-14N
pins: 1 OUT1 (out), 2 VCC (power), 3 NEG1 (in), 4 POS1 (in), 5 NEG2 (in), 6 POS2 (in), 7 NEG3 (in), 8 POS3 (in), 9 NEG4 (in), 10 POS4 (in), 11 GND (power), 12 OUT4 (out), 13 OUT3 (out), 14 OUT2 (out)

## LT1638CS8#TRPBF OpAmp
designator U?, comment LT1638CS8#TRPBF
General Purpose Amplifier 2 Circuit Rail-to-Rail SOT-23-8; MfgPN: LT1638CS8#TRPBF
footprint 8-SOIC
part A pins: 1 OUT A (out), 2 IN A- (in), 3 IN A+ (in)
part B pins: 5 IN B+ (in), 6 IN B- (in), 7 OUT B (out)
part C pins: 4 V– (power), 8 V+ (power)
part C text: +; X 2; –

## LTC1046 - 5V to – 5V Converter
designator U?, comment LTC1046
footprint SOIC8_M (8-Pin Small Outline Integrated Circuit 1.27 mm Pitch, IPC Low Density)
pins: 1 Boost, 2 CAP+, 3 GND, 4 CAP-, 5 Vout, 6 LV, 7 OSC, 8 V+

## Luminox O2 Sensor
designator P?
MFG PN: SST - LOX-02
footprint Luminox O2 Sensor (SST - LOX-02 (LuminOx O2 Sensor))
pins: 1 VCC, 2 GND, 3 TX, 4 RX

## M50-3930442
designator J?
CONN HEADER R/A 4POS 1.27MM
footprint M50-3930442 (CONN HEADER R/A 4POS 1.27MM)
pins: 1, 2, 3, 4

## Magnetic Microphone
designator MIC?
footprint Microphone 458-1544-ND
pins: 1, 2

## Matrix Thermo Chip
designator *U?, comment temp
Mfgr PN: temp
footprint DFN10
pins: 1 RSVD, 2 VINP, 3 VOUT, 4 ADC_REF, 5 ADC_DATA, 6 LX2, 7 LX1, 8 LX1, 9 VINM, 10 VINM, 11 EP

## MAX3221
designator -TSSOP16?
1/1 Transceiver Full RS232 16-TSSOP; MF: Texas Instruments; Availability: Unavailable; Package: TSSOP-16 Texas Instruments; MP: MAX3221; Price: None; SnapEDA_Link: https://www.snapeda.com/parts/MAX3221/Texas%20Instruments/view-part/567121/?ref=snap; Value: *
footprint TSSOP16 (Footprint not found)
pins: 1 ~{!EN} (io), 2 C1+ (io), 3 V+ (io), 4 C1- (io), 5 C2+ (io), 6 C2- (io), 7 V- (io), 8 RIN (io), 9 ROUT (io), 10 ~{!INV} (io), 11 DIN (io), 12 FORCEON (io), 13 DOUT (io), 14 GND (io), 15 VCC (io), 16 ~{!FORCEOFF} (io)

## MC74VHC1G09DFT1G AND Gate
designator U?, comment MC74VHC1G09DFT1G
IC GATE AND 1CH 2-INP SC-70; Manufacturer: On Semi; Manufacturer PN: MC74VHC1G09DFT1G; Digikey PN: MC74VHC1G09DFT1GOSCT-ND
footprint SOT353-5
pins: 1 IN B, 2 IN A, 3 GND, 4 OUT, 5 VCC

## MCP1642 5V Fixed Boost Regulator
designator U?, comment MCP1642
Manufacturer PN: MCP1642
footprint MSOP8
pins: 1 EN, 3 PG, 4 VOUT, 5 SW, 6 PGND, 7 SGND, 8 VIN

## MCP3421A2T-E/CH ADC
designator U?
18 Bit Analog to Digital Converter 1 Input 1 Sigma-Delta SOT-23-6; MFG: Microchip Technology; MFG PN: MCP3421A2T-E/CH
footprint SOT23-6
pins: 1 V+, 2 GND, 3 SCL, 4 SDA, 5 VCC, 6 V-

## MCP3423T-E/MF
designator J?
Analog-to-Digital Converter; MP: MCP3423T-E/MF; Package: None; Price: None; Value: *; Availability: Unavailable
footprint DFN10
pins: 1 CH1+, 2 CH1-, 3 VSS (power), 4 CH2+, 5 CH2-, 6 VDD (power), 7 SDA, 8 SCL, 9 ADR0, 10 ADR1, 11 EP

## MCP73831T-2ADI/OT
designator U?
Miniature Single-Cell, Fully Integrated Li-Ion, Li-Polymer Charge Management Controller, 4.2V, 5-Pin SOT-23, Industrial Temperature, Tape and Reel
footprint SOT-23-5
pins: 1 STAT, 2 VSS, 3 VBAT, 4 VDD, 5 PROG

## MIC2298-15YML-TR
designator U?
LED Driver IC 1 Output DC DC Regulator Step-Up (Boost) Analog Dimming 3.5A (Switch) 12-MLF™ (3x3); MFG PN: MIC2298-15YML-TR
footprint 12-VFDFN
pins: 1 BRT, 2 SS/DIM, 3 FB, 4 AGND, 5 PGND, 6 PGND, 7 SW, 8 SW, 9 OVP, 10 VIN, 11 EN, 12 COMP

## MIC4575
designator U?, comment MIC4575WU
Buck, Buck-Boost Switching Regulator IC Positive Adjustable 1.23V 1 Output 1.7A (Switch) TO-263-6, D²Pak (5 Leads + Tab), TO-263BA; Manufacturer: Microchip Technology; Supplier 1 PN: 576-1217-ND; Supplier 1: Digikey; Manufacturer PN: MIC4575WU
footprint TO-263-5 (D-PAK/TO-263-5; 5 Leads; Body 14.4 (inc. leads) x 10.4 mm (LxW max))
pins: 1 Vin, 2 SW, 3 GND, 4 FB, 5 SHDN

## MIC4684YM-TR
designator *
IC REG BUCK ADJ 2A 8SOIC
footprint MIC4684YM-TR (IC REG BUCK ADJ 2A 8SOIC)
pins: BS 4 (power), EN 8 (in), FB 5 (power), GND 2 (power), SW 1 (power), VIN 3 (power)

## MIC5239-5.0YM
designator U?
IC REG LDO 5V 0.5A 8SOIC; Manufacturer: Microchip; Supplier 1: Digikey; Supplier 1 PN: 576-1838-5-ND; Link: http://www.digikey.com/product-detail/en/microchip-technology/MIC5239-5.0YM/576-1838-5-ND/1030757
pins: 1 EN (io), 2 FLG (io), 3 IN (io), 4 OUT (io), 5 GND (io), 6 GND (io), 7 GND (io), 8 GND (io)

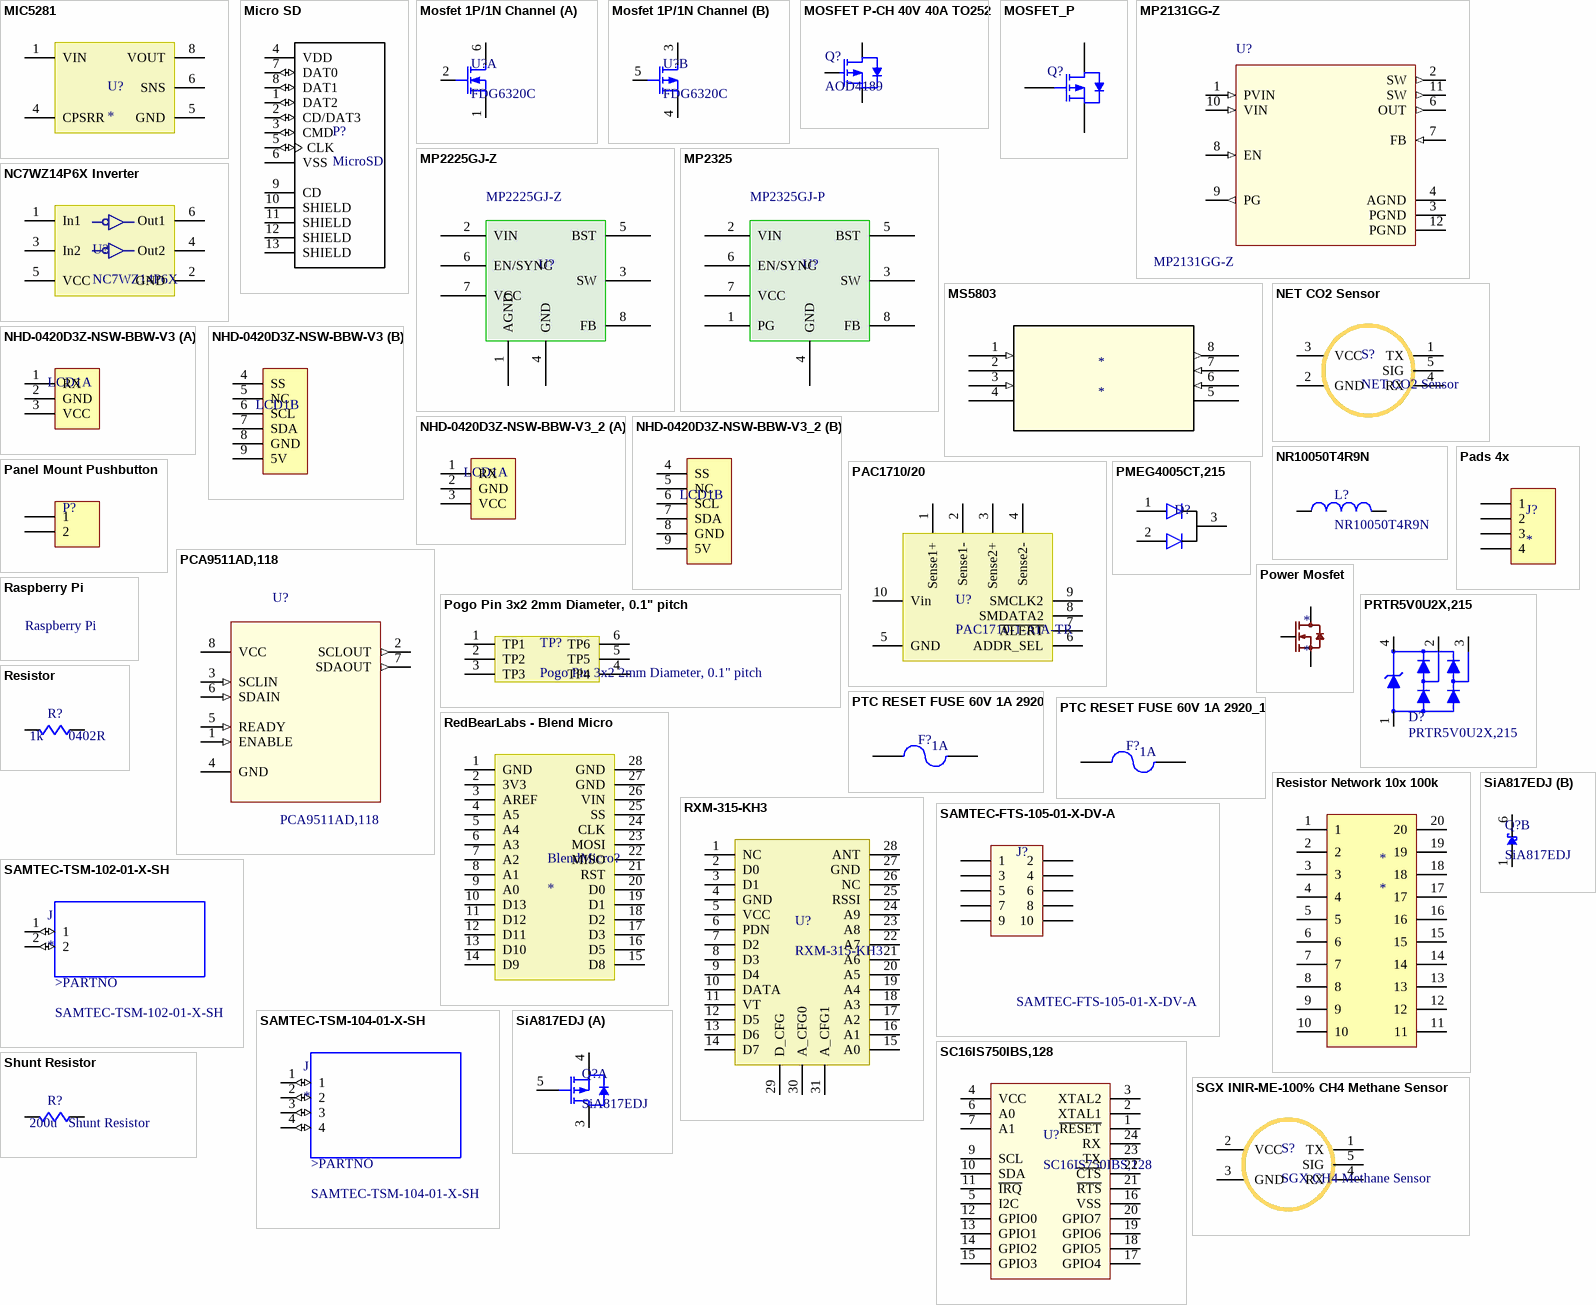
[diagram p3: symbols MIC5281 to SiA817EDJ]

## MIC5281
designator U?
IC REG LDO 3.3V 25MA 8MSOP; Manufacturer PN: MIC5281-3.3YMM-TR
footprint TSSOP-08 (TSOP, 8-Leads, Body 3x3mm, Pitch 0.65mm, IPC Low Density)
pins: 1 VIN, 4 CPSRR, 5 GND, 6 SNS, 8 VOUT

## Micro SD
designator P?, comment MicroSD
Mfg PN: MEM2051-00-195-00-A
footprint MicroSD
pins: 1 DAT2 (io), 2 CD/DAT3 (io), 3 CMD (io), 4 VDD (power), 5 CLK (io), 6 VSS (power), 7 DAT0 (io), 8 DAT1 (io), 9 CD, 10 SHIELD, 11 SHIELD, 12 SHIELD, 13 SHIELD

## Mosfet 1P/1N Channel
designator U?, comment FDG6320C
Manufacturer: Fairchild Semiconductor; Supplier 1 PN: FDG6320CCT-ND; Supplier 1: Digikey; Manufacturer PN: FDG6320C
footprint SOT-323
part A pins: 1 S, 2 G, 6 D
part B pins: 3 D, 4 S, 5 G

## MOSFET P-CH 40V 40A TO252
designator Q?, comment AOD4189
MOSFET P-CH 40V 40A TO252; Manufacturer: Alpha & Omega Semiconductor Inc.; MFG PN: AOD4189; Supplier 1: Digikey; Supplier 1 PN: 785-1351-1-ND
footprint TO-252-3, DPak (2 Leads + Tab), SC-63
pins: 1 G, 2 S, 3 D

## MOSFET_P
designator Q?
MOSFET P-CH 20V 2.6A SC70-6; Manufacturer: Fairchild Semiconductor; Manufacturer PN: FDG332PZ; Supplier 1: Digikey; Supplier 1 PN: FDG332PZTR-ND
footprint SOT-363 (SOT363, 6-Leads, Body 2x1.3mm, Pitch 0.65mm, Lead Span 2.1mm, IPC Low Density)
pins: 1 G, 2 S, 3 D

## MP2131GG-Z
designator U?
SnapEDA_Link: https://www.snapeda.com/parts/MP2131GG-Z/Monolithic%20Power%20Systems/view-part/1231471/?ref=snap; Value: *
footprint MP2131GG-Z (Footprint not found)
pins: 1 PVIN (in), 2 SW (out), 3 PGND (power), 4 AGND (power), 6 OUT (out), 7 FB (in), 8 EN (in), 9 PG (out), 10 VIN (in), 11 SW (out), 12 PGND (power)

## MP2225GJ-Z
designator U?
Buck Switching Regulator IC Positive Adjustable 0.6V 1 Output 5A SOT-23-8 Thin, TSOT-23-8; Manufacturer: Monolithic Power Systems; Supplier: Digikey; Supplier PN: 1589-1571-1-ND; Manufacturer PN: MP2225GJ-Z
footprint SOT-23-8 THIN TSOT-23-8
pins: 1 AGND, 2 VIN, 3 SW, 4 GND, 5 BST, 6 EN/SYNC, 7 VCC, 8 FB

## MP2325
designator U?, comment MP2325GJ-P
Buck Switching Regulator IC Positive Adjustable 0.8V 1 Output 3A SOT-23-8 Thin, TSOT-23-8; Manufacturer: Monolithic Power Systems; Supplier: Digikey; Supplier PN: 1589-1107-1-ND; Manufacturer PN: MP2325GJ-P
footprint SOT-23-8 THIN TSOT-23-8
pins: 1 PG, 2 VIN, 3 SW, 4 GND, 5 BST, 6 EN/SYNC, 7 VCC, 8 FB

## MS5803
designator *
footprint MS5803
pins: 1 SCLK (in), 2 GND, 3 CSB (in), 4 NC, 5 VDD (power), 6 PS (in), 7 SDI/SDA (in), 8 SDA (out)

## NC7WZ14P6X Inverter
designator U?, comment NC7WZ14P6X
IC INVERTER DUAL SCHMITT SC70-6; Manufacturer: Fairchild; Manufacturer PN: NC7WZ14P6X; Digikey PN: NC7WZ14P6XCT-ND
footprint SOT-363 (SOT363, 6-Leads, Body 2x1.3mm, Pitch 0.65mm, Lead Span 2.1mm, IPC Low Density)
pins: 1 In1, 2 GND, 3 In2, 4 Out2, 5 VCC, 6 Out1

## NET CO2 Sensor
designator S?
MFG PN: INP20-CO2V-NCVSN
footprint Nenvitech NET CO2 Sensor (N.E.T. INP20-CO2V-NCVSN  (Nenvitech Sensor - CO2))
pins: 1 TX, 2 GND, 3 VCC, 4 RX, 5 SIG

## NHD-0420D3Z-NSW-BBW-V3
designator LCD1  (value not drawn)
3 Positions Header, Unshrouded, Breakaway Connector 0.100" (2.54mm) Through Hole Tin; Supplier 1: Digikey; Supplier 1 PN: S1012EC-03-ND
footprint LCD NHD-0420D3Z-NSW-BBW-V3 (LCD SERIAL 4X20 SIDE WHT BKLT)
footprint LCD NHD-0420D3Z-NSW-BBW-V3 - SLIM (LCD SERIAL 4X20 SIDE WHT BKLT)
part A pins: 1 RX, 2 GND, 3 VCC
part B pins: 4 SS, 5 NC, 6 SCL, 7 SDA, 8 GND, 9 5V

## NHD-0420D3Z-NSW-BBW-V3_2
designator LCD1  (value not drawn)
3 Positions Header, Unshrouded, Breakaway Connector 0.100" (2.54mm) Through Hole Tin; Supplier 1: Digikey; Supplier 1 PN: S1012EC-03-ND
footprint LCD NHD-0420D3Z-NSW-BBW-V3 (LCD SERIAL 4X20 SIDE WHT BKLT)
footprint LCD NHD-0420D3Z-NSW-BBW-V3 - SLIM (LCD SERIAL 4X20 SIDE WHT BKLT)
part A pins: 1 RX, 2 GND, 3 VCC
part B pins: 4 SS, 5 NC, 6 SCL, 7 SDA, 8 GND, 9 5V

## NR10050T4R9N
designator L?
4.9µH Shielded Wirewound Inductor 6A 19.5 mOhm Max Nonstandard; Manufacturer: Taiyo Yuden; Manufacturer PN: NR10050T4R9N; Supplier 1: Digikey; Supplier 1 PN: 587-1696-1-ND
footprint NR10050T4R9N Inductor (4.9µH Shielded Wirewound Inductor 6A 19.5 mOhm Max Nonstandard)
pins: 1, 2

## PAC1710/20
designator U?, comment PAC1710-1-AIA-TR
IC CURRENT SENSE MON SGL 10VDFN; Manufacturer: Microchip; Manufacturer PN: PAC1710-1-AIA-TR; Digikey PN: PAC1710-1-AIA-CT-ND
footprint DFN-MF10 (SON, 10-Leads, Body 3x3mm, Pitch 0.5mm, Microchip Recommended)
pins: 1 Sense1+, 2 Sense1-, 3 Sense2+, 4 Sense2-, 5 GND, 6 ADDR_SEL, 7 ~{ALERT}, 8 SMDATA2, 9 SMCLK2, 10 Vin

## Pads 4x
designator J?
CONN HEADER SMD 4POS PADS
footprint Pads 4x 4x4mm
footprint Pads 4x 2x2mm
footprint 0877590414 (CONN HEADER SMD 4POS 2MM)
pins: 1, 2, 3, 4

## Panel Mount Pushbutton
designator P?  (value not drawn)
footprint Panel Mount Pushbutton
pins: 1, 2

## PCA9511AD,118
designator U?
Buffer, Accelerator 1 Channel 400kHz 8-SO; MF: NXP USA; Digi-Key_Part_Number: 568-13505-1-ND; Package: SO-8 NXP Semiconductors; Digi-Key_Purchase_URL: https://www.digikey.com/product-detail/en/nxp-usa-inc/PCA9511AD,118/568-13505-1-ND/7649058?utm_source=snapeda&utm_medium=aggregator&utm_campaign=symbol; SnapEDA_Link: https://www.snapeda.com/parts/PCA9511AD,118/NXP%20USA%20Inc./view-part/611848/?ref=snap; MP: PCA9511AD,118; Value: *
footprint 8-SOIC
pins: 1 ENABLE (in), 2 SCLOUT (out), 3 SCLIN (in), 4 GND, 5 READY (in), 6 SDAIN (in), 7 SDAOUT (out), 8 VCC (power)

## PMEG4005CT,215
designator D?  (value not drawn)
Diode Array 1 Pair Common Cathode Schottky 40V 500mA Surface Mount TO-236-3, SC-59, SOT-23-3; Manufacturer Part Number 1: PMEG4005CT,215; Manufacturer 1: Nexperia USA Inc.; Check_prices: https://www.snapeda.com/parts/PMEG4005CT,215/Nexperia/view-part/5661714/?ref=eda; Availability: Good; Price: None; Value: *; SnapEDA_Link: https://www.snapeda.com/parts/PMEG4005CT,215/Nexperia/view-part/5661714/?ref=snap; Purchase-URL: https://pricing.snapeda.com/search/part/PMEG4005CT,215/?ref=eda; Package: None
footprint SOT95P230X110-3N
pins: 1 ANODE_2, 2 ANODE, 3 COMMON_CATHODE

## Pogo Pin 3x2 2mm Diameter, 0.1" pitch
designator TP?
footprint Pogo Pin 2mm Diameter 0.1" Pitch
pins: 1 TP1, 2 TP2, 3 TP3, 4 TP4, 5 TP5, 6 TP6

## Power Mosfet
designator *
MPN: IRF520NPBF
footprint TO-252
pins: 1 G, 2 D, 3 S

## PRTR5V0U2X,215
designator D?
Clamp Ipp Tvs Diode Surface Mount SOT-143B; MF: Nexperia USA; Package: SOT-143 Nexperia; Price: None; Availability: Unavailable; MP: PRTR5V0U2X,215; SnapEDA_Link: https://www.snapeda.com/parts/PRTR5V0U2X%2C215/Nexperia%20USA%20Inc./view-part/1759518/?ref=snap; Value: *
footprint SOT143B (Footprint not found)
pins: 1 P$1, 2 P$2, 3 P$3, 4 P$4

## PTC RESET FUSE 60V 1A 2920
designator F?  Current - Hold: 1A  (hidden comment: *)
Polymeric PTC Resettable Fuse 60V 1A Ih Surface Mount 2920 (7351 Metric), Concave; Manufacturer: Littlefuse; Manufacturer PN: 2920L500/16MR; Current - Max: 40A; Current - Trip: 10A; Voltage - Max: 16V; Supplier 1: Digikey; Supplier 1 PN: F6136CT-ND
footprint 2920 (7351 Metric)
pins: 1, 2

## PTC RESET FUSE 60V 1A 2920_1
designator F?  Current - Trip: 1A  (hidden comment: *)
Polymeric PTC Resettable Fuse 15V 500 mA Ih Surface Mount 1206 (3216 Metric), Concave; Manufacturer: Littlefuse; Manufacturer PN: 1206L050/15YR; Current - Max: 100A; Supplier 1: Digikey; Supplier 1 PN: F3733CT-ND; Voltage - Max: 15V
footprint RESC1206X70N
pins: 1, 2

## Raspberry Pi
designator Raspberry Pi  (value not drawn)
footprint Raspberry Pi 3

## RedBearLabs - Blend Micro
designator BlendMicro?
footprint RedBearLabs - Blend Micro
pins: 1 GND, 2 3V3, 3 AREF, 4 A5, 5 A4, 6 A3, 7 A2, 8 A1, 9 A0, 10 D13, 11 D12, 12 D11, 13 D10, 14 D9, 15 D8, 16 D5, 17 D3, 18 D2, 19 D1, 20 D0, 21 RST, 22 MISO, 23 MOSI, 24 CLK, 25 SS, 26 VIN, 27 GND, 28 GND

## Resistor
designator R?, comment value 1k  (hidden comment: Resistor 0603)
footprint 0402R (Resistor)
footprint 0603R (Resistor)
footprint 0805R (Resistor)
pins: 1 (power), 2 (power)

## Resistor Network 10x 100k
designator *
footprint WSOIC20_M (20-Pin Small Outline Integrated Circuit 1.27 mm Pitch, IPC Low Density)
pins: 1, 2, 3, 4, 5, 6, 7, 8, 9, 10, 11, 12, 13, 14, 15, 16, 17, 18, 19, 20

## RXM-315-KH3
designator U?
footprint RXM-315-KH3 (Linx Transmitter Module)
pins: 1 NC, 2 D0, 3 D1, 4 GND, 5 VCC, 6 PDN, 7 D2, 8 D3, 9 D4, 10 DATA, 11 VT, 12 D5, 13 D6, 14 D7, 15 A0, 16 A1, 17 A2, 18 A3, 19 A4, 20 A5, 21 A6, 22 A7, 23 A8, 24 A9, 25 RSSI, 26 NC, 27 GND, 28 ANT, 29 D_CFG, 30 A_CFG0, 31 A_CFG1

## SAMTEC-FTS-105-01-X-DV-A
designator J?
FTS Series .050 Micro Low Profile Terminal Strip; MP: FTS-105-01-F-DV-A; MF: Samtec Inc.; Package: None; Price: None; Availability: Unavailable; SnapEDA_Link: https://www.snapeda.com/parts/FTS-105-01-F-DV-A/Samtec%20Inc./view-part/3323992/?ref=snap; Value: *
footprint SAMTEC-FTS-105-01-X-DV-A (Footprint not found)
pins: 1, 2, 3, 4, 5, 6, 7, 8, 9, 10

## SAMTEC-TSM-102-01-X-SH
designator J
Connector Header Surface Mount, Right Angle 2 position 0.100 _2.54mm_; MF: Samtec; MP: TSM-102-01-T-SH; Digi-Key_Part_Number: 612-TSM-102-01-T-SH-P-TR-ND; Digi-Key_Purchase_URL: https://www.digikey.co.th/product-detail/en/samtec-inc/TSM-102-01-T-SH-P-TR/612-TSM-102-01-T-SH-P-TR-ND/2685535?utm_source=snapeda&utm_medium=aggregator&utm_campaign=symbol; Package: None; Value: *; SnapEDA_Link: https://www.snapeda.com/parts/TSM-102-01-T-SH/Samtec%20Inc./view-part/641544/?ref=snap
footprint SAMTEC-TSM-102-01-X-SH
pins: 1 (io), 2 (io)
text: >PARTNO

## SAMTEC-TSM-104-01-X-SH
designator J
MF: Samtec; MP: SAMTEC-TSM-104-01-X-SH; Price: None; Value: *; Availability: Unavailable; Package: None
footprint SAMTEC-TSM-104-01-X-SH
pins: 1 (io), 2 (io), 3 (io), 4 (io)
text: >PARTNO

## SC16IS750IBS,128
designator U?
RS232, RS485 Controller I²C, SPI, UART Interface 24-HVQFN (4x4); MFG PN: SC16IS750IBS,128
footprint 24-VFQFN Exposed Pad
pins: 1 ~{RESET}, 2 XTAL1, 3 XTAL2, 4 VCC, 5 I2C, 6 A0, 7 A1, 9 SCL, 10 SDA, 11 ~{IRQ}, 12 GPIO0, 13 GPIO1, 14 GPIO2, 15 GPIO3, 16 VSS, 17 GPIO4, 18 GPIO5, 19 GPIO6, 20 GPIO7, 21 ~{RTS}, 22 ~{CTS}, 23 TX, 24 RX

## SGX INIR-ME-100% CH4 Methane Sensor
designator S?, comment SGX CH4 Methane Sensor
SGX  INIR-ME-100% Sensor - CH4 Methane; MFG PN: SGX INIR-ME-100%
footprint Amphenol SGX CH4 Methan Sensor (SGX CH4 Methane Sensor INIR-ME-100%)
pins: 1 TX, 2 VCC, 3 GND, 4 RX, 5 SIG

## Shunt Resistor
designator R?  value 200u  (hidden comment: Shunt Resistor)
200 µOhms ±5% 10W Chip Resistor Nonstandard Automotive AEC-Q200, Current Sense, Moisture Resistant Metal Element; Manufacturer Part Number 1: PU5931JKHPA0U2L; Manufacturer 1: Yageo
footprint Shunt Resistor (METAL SHUNT RESISTOR 5931 5% 225)
pins: 1 (power), 2 (power)

## SiA817EDJ
designator Q?
Mfg PN: SiA817EDJ
footprint PowerPAK® SC-70-6 Dual
part A pins: 3 D, 4 S, 5 G
part B pins: 1 A, 6 K

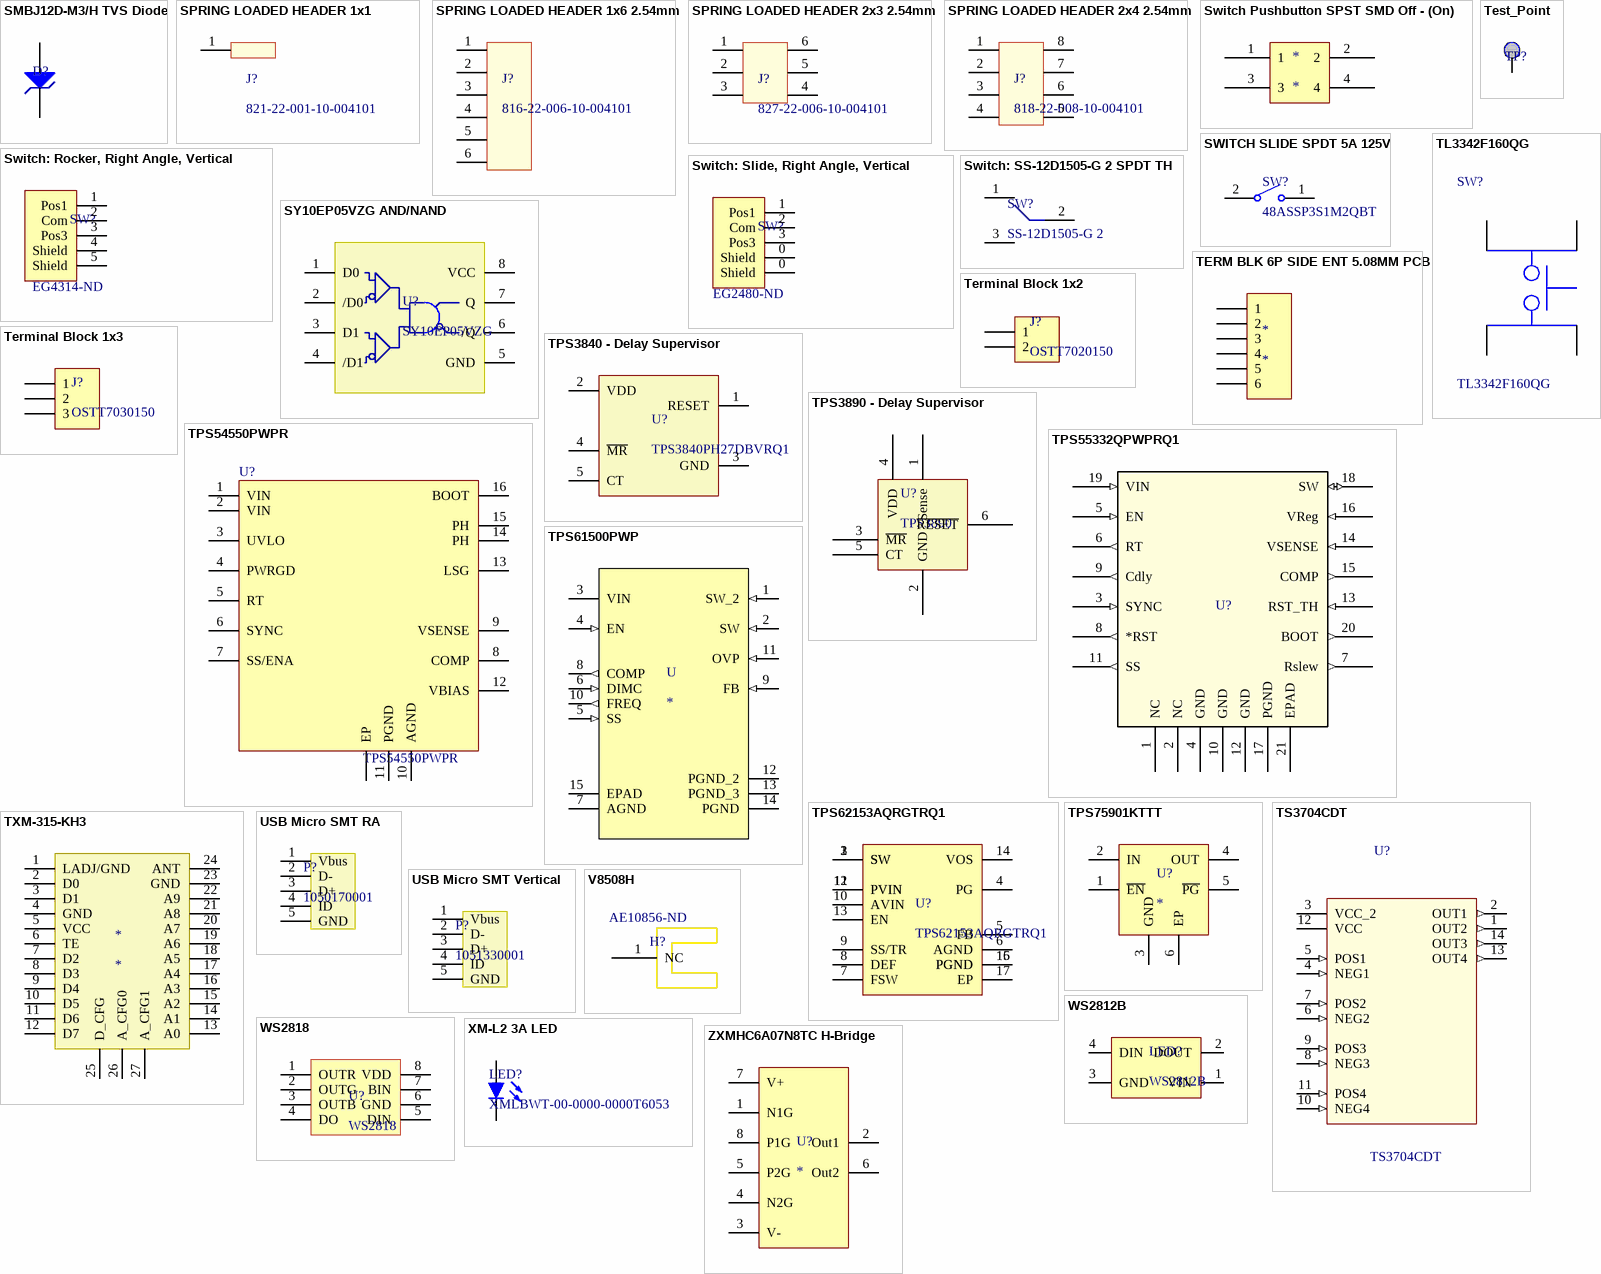
[diagram p4: symbols SMBJ12D-M3/H TVS Diode to ZXMHC6A07N8TC H-Bridge]

## SMBJ12D-M3/H TVS Diode
designator D?  (value not drawn)
Manufacturer: Vishay; Manufacturer PN: SMBJ12D-M3/H; Voltage - Reverse Standoff: 12V; Voltage - Breakdown (Min): 13.5V; Voltage - Clamping (Max): 19.6V; Current - Peak Pulse: 30.6A; Power - Peak Pulse: 600W; Digikey PN: SMBJ12D-M3/HGICT-ND
footprint SMBJ12D-M3/H (TVS DIODE 12VWM 19.6VC DO214AA)
pins: 1, 2

## SPRING LOADED HEADER 1x1
designator J?, comment 821-22-001-10-004101
Mfgr: Mill-Max Manufacturing Corp.; Mfgr PN: 821-22-001-10-004101; Digikey PN: ED8201-01-ND
footprint Spring Loaded Header 1x1
pins: 1

## SPRING LOADED HEADER 1x6 2.54mm
designator J?, comment 816-22-006-10-004101
Mfgr: Mill-Max Manufacturing Corp.; Mfgr PN: 816-22-006-10-004101; Digikey PN: ED10684-ND
footprint Spring Loaded Header 1x6
pins: 1, 2, 3, 4, 5, 6

## SPRING LOADED HEADER 2x3 2.54mm
designator J?, comment 827-22-006-10-004101
Mfgr: Mill-Max Manufacturing Corp.; Mfgr PN: 827-22-006-10-004101; Digikey PN: ED10673-ND
footprint Spring Loaded Header 2x3
pins: 1, 2, 3, 4, 5, 6

## SPRING LOADED HEADER 2x4 2.54mm
designator J?, comment 818-22-008-10-004101
Mfgr: Mill-Max Manufacturing Corp.; Mfgr PN: 818-22-008-10-004101; Digikey PN: ED10755-ND
footprint Spring Loaded Header 2x4
pins: 1, 2, 3, 4, 5, 6, 7, 8

## Switch Pushbutton SPST SMD Off - (On)
designator *
footprint Switch Pushbutton SPST SMD OFF - (On)
pins: 1, 2, 3, 4

## SWITCH SLIDE SPDT 5A 125V
designator SW?, comment 48ASSP3S1M2QBT
SWITCH SLIDE SPDT 5A 125V; MFG PN: 48ASSP3S1M2QBT
footprint SWITCH SLIDE SPDT 5A 125V
pins: 1, 2

## Switch: Rocker, Right Angle, Vertical
designator SW?  Supplier 1 PN: EG4314-ND  (hidden comment: *)
Rocker Switch SPDT 5A (AC/DC) 120V Through Hole, Right Angle, Vertical; Manufacturer: E-Switch; Manufacturer PN: 300SP1J1BLKM7QE; Supplier 1: Digikey
footprint Switch: 3pin, Vertical, Right Angle
pins: 1 Pos1, 2 Com, 3 Pos3, 4 Shield, 5 Shield

## Switch: Slide, Right Angle, Vertical
designator SW?  Supplier 1 PN: EG2480-ND  (hidden comment: *)
Slide Switch SPDT Through Hole, Right Angle, Vertical; Manufacturer: E-Switch; Manufacturer PN: 500SSP1S1M7QEA; Supplier 1: Digikey
footprint Switch: Slide, Vertical, Right Angle
pins: 0 Shield, 0 Shield, 1 Pos1, 2 Com, 3 Pos3

## Switch: SS-12D1505-G 2 SPDT TH
designator SW?, comment SS-12D1505-G 2
SWITCH SLIDE SPDT 300MA 6V; Manufacturer: C&K; Manufacturer PN: SS-12D1505-G 2; Digikey PN: CKN10372-ND
footprint Switch SPDT TH
pins: 1, 2, 3

## SY10EP05VZG AND/NAND
designator U?, comment SY10EP05VZG
IC GATE AND/NAND 2INP DIFF 8SOIC; Manufacturer: Microchip; Manufacturer PN: SY10EP05VZG; Digikey PN: 576-2036-5-ND
footprint SOIC-SN8_M (Footprint not found)
pins: 1 D0, 2 /D0, 3 D1, 4 /D1, 5 GND, 6 /Q, 7 Q, 8 VCC

## TERM BLK 6P SIDE ENT 5.08MM PCB
designator *
MFG PN: 1729160
footprint TERM BLK 6P SIDE ENT 5.08MM PCB
pins: 1, 2, 3, 4, 5, 6

## Terminal Block 1x2
designator J?, comment OSTT7020150
2 Position Wire to Board Terminal Block Horizontal with Board 0.250" (6.35mm) Through Hole; MfgPN: OSTT7020150
footprint Terminal Block 1x2 (2 Position Wire to Board Terminal Block Horizontal with Board 0.250" (6.35mm) Through Hole)
pins: 1, 2

## Terminal Block 1x3
designator J?, comment OSTT7030150
3 Position Wire to Board Terminal Block Horizontal with Board 0.250" (6.35mm) Through Hole; MfgPN: OSTT7030150
footprint Terminal Block 1x3 (3 Position Wire to Board Terminal Block Horizontal with Board 0.250" (6.35mm) Through Hole)
pins: 1, 2, 3

## Test_Point
designator TP?  (value not drawn)
footprint Test_Point (3mm Test Point)
footprint Test_Point Small (3mm Test Point)
pins: TP

## TL3342F160QG
designator SW?
Tactile Switch SPST-NO Top Actuated Surface Mount; MF: E-Switch; Package: None; Price: None; Availability: Unavailable; MP: TL3342F160QG; SnapEDA_Link: https://www.snapeda.com/parts/TL3342F160QG/E-Switch/view-part/1099729/?ref=snap; Value: *
footprint SW_TL3342F160QG (Footprint not found)
pins: 1, 2, 3, 4

## TPS3840 - Delay Supervisor
designator U?, comment TPS3840PH27DBVRQ1
Supervisor Push-Pull, Totem Pole 1 Channel SOT-23-5; Manufacturer: Texas Instruments; Supplier 1: Digikey; Supplier 1 PN: 296-TPS3840PH27DBVRQ1CT-ND; MFG PN: TPS3840PH27DBVRQ1
footprint SOT-23-5
pins: 1 RESET, 2 VDD, 3 GND, 4 ~{MR}, 5 CT

## TPS3890 - Delay Supervisor
designator U?, comment TPS3890
Manufacturer: Texas Instruments; Manufacturer PN: TPS389001DSET; Supplier 1: Digikey; Supplier 1 PN: 296-44489-1-ND
footprint WSON 3x2 (WSON 6-pin 3x2)
pins: 1 Sense, 2 GND, 3 ~{MR}, 4 VDD, 5 CT, 6 ~{RESET}

## TPS54550PWPR
designator U?
MfgPN: TPS54550PWPR
footprint TI_HTSSOP-16
pins: 1 VIN (power) "Output power good (High = VOUT ready, Low = VOUT below nominal regulation) ; open drain (requires pull-up resistor; goes high impedance, when device is switched off)", 2 VIN (power) "Output power good (High = VOUT ready, Low = VOUT below nominal regulation) ; open drain (requires pull-up resistor; goes high impedance, when device is switched off)", 3 UVLO (oc) "Output power good (High = VOUT ready, Low = VOUT below nominal regulation) ; open drain (requires pull-up resistor; goes high impedance, when device is switched off)", 4 PWRGD "Output power good (High = VOUT ready, Low = VOUT below nominal regulation) ; open drain (requires pull-up resistor; goes high impedance, when device is switched off)", 5 RT "Output power good (High = VOUT ready, Low = VOUT below nominal regulation) ; open drain (requires pull-up resistor; goes high impedance, when device is switched off)", 6 SYNC "Output power good (High = VOUT ready, Low = VOUT below nominal regulation) ; open drain (requires pull-up resistor; goes high impedance, when device is switched off)", 7 SS/ENA "Output power good (High = VOUT ready, Low = VOUT below nominal regulation) ; open drain (requires pull-up resistor; goes high impedance, when device is switched off)", 8 COMP "Output power good (High = VOUT ready, Low = VOUT below nominal regulation) ; open drain (requires pull-up resistor; goes high impedance, when device is switched off)", 9 VSENSE "Output power good (High = VOUT ready, Low = VOUT below nominal regulation) ; open drain (requires pull-up resistor; goes high impedance, when device is switched off)", 10 AGND "Output power good (High = VOUT ready, Low = VOUT below nominal regulation) ; open drain (requires pull-up resistor; goes high impedance, when device is switched off)", 11 PGND "Output power good (High = VOUT ready, Low = VOUT below nominal regulation) ; open drain (requires pull-up resistor; goes high impedance, when device is switched off)", 12 VBIAS "Output power good (High = VOUT ready, Low = VOUT below nominal regulation) ; open drain (requires pull-up resistor; goes high impedance, when device is switched off)", 13 LSG "Output power good (High = VOUT ready, Low = VOUT below nominal regulation) ; open drain (requires pull-up resistor; goes high impedance, when device is switched off)", 14 PH "Output power good (High = VOUT ready, Low = VOUT below nominal regulation) ; open drain (requires pull-up resistor; goes high impedance, when device is switched off)", 15 PH "Output power good (High = VOUT ready, Low = VOUT below nominal regulation) ; open drain (requires pull-up resistor; goes high impedance, when device is switched off)", 16 BOOT "Output power good (High = VOUT ready, Low = VOUT below nominal regulation) ; open drain (requires pull-up resistor; goes high impedance, when device is switched off)", EP "Output power good (High = VOUT ready, Low = VOUT below nominal regulation) ; open drain (requires pull-up resistor; goes high impedance, when device is switched off)"